# Altium integrated library Self Establish.IntLib: 75 symbols
Pins are listed as number, name and electrical type; pins without a type are passive.

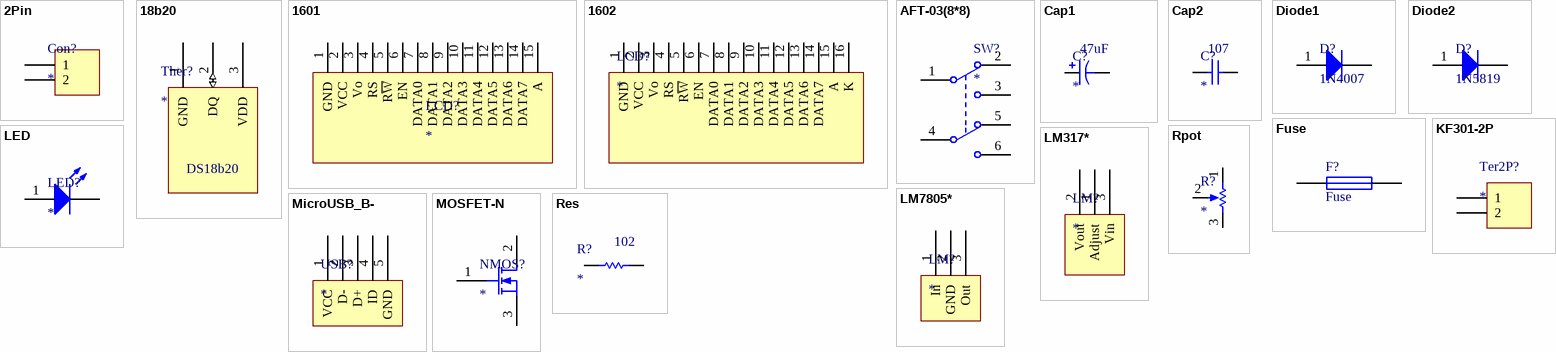
[diagram p0: symbols 2Pin to Rpot]

## 2Pin
designator Con?
footprint 2Pin(DIP) (杜邦线)
pins: 1, 2

## 18b20
designator Ther?
DS18B20 Programmable Resolution 1-Wire® Digital Thermometer
footprint TO-92A(DIP) (TO, Flat Index; 3 In-Line, Axial Leads; Body Dia. 4.5mm; Leads 0.51 x 0.48 mm (max))
footprint 3Pin(DIP) (杜邦线)
pins: 1 GND (power), 2 DQ (io), 3 VDD (power)
text: DS18b20

## 1601
designator LCD?
lcd1601
pins: 1 GND, 2 VCC, 3 Vo, 4 RS, 5 R~{W}, 6 EN, 7 DATA0, 8 DATA1, 9 DATA2, 10 DATA3, 11 DATA4, 12 DATA5, 13 DATA6, 14 DATA7, 15 A

## 1602
designator LCD?
lcd1602
footprint 1602(DIP) (lcd1602)
footprint 1602_(DIP) (lcd1602紧凑版)
pins: 1 GND, 2 VCC, 3 Vo, 4 RS, 5 R~{W}, 6 EN, 7 DATA0, 8 DATA1, 9 DATA2, 10 DATA3, 11 DATA4, 12 DATA5, 13 DATA6, 14 DATA7, 15 A, 16 K

## AFT-03(8*8)
designator SW?
双刀双掷(DPDT)
footprint AFT-03(DIP) (DPDT)
pins: 1 COMMON1, 2 NC1, 3 NO1, 4 COMMON2, 5 NC2, 6 NO2

## Cap1
designator C?  value 47uF
极性电容; Value: 1uF
footprint 0603_(M) (0603(极性))
footprint 0805_(M) (0805(极性))
footprint 50V1uF(DIP) (电解电容)
footprint 25V47uF(DIP) (电解电容)
pins: 1, 2

## Cap2
designator C?  value 107
非极性电容; Value: 104; Value: 103
footprint 0603(M) (0603(无极性))
footprint 0805(M) (0805(无极性))
pins: 1, 2

## Diode1
designator D?, comment 1N4007
整流二极管
footprint SMA(M) (SMA(DO-214AC))
pins: 1 P, 2 N

## Diode2
designator D?, comment 1N5819
肖特基二极管
footprint SMA(M) (SMA(DO-214AC))
pins: 1 P, 2 N

## Fuse
designator F?
保险丝
footprint 1812(M) (fuse)
pins: 1, 2

## KF301-2P
designator Ter2P?
接线端子 脚距5.08MM 300V/16A
footprint KF301-2P(DIP) (2Pin接头)
pins: 1, 2

## LED
designator LED?
footprint 0603_(M) (0603(极性))
footprint 0805_(M) (0805(极性))
pins: 1 P, 2 N

## LM317*
designator LM?
三端稳压(可调)
footprint TO220(DIP) (TO220AB)
pins: 1 Adjust, 2 Vout, 3 Vin

## LM7805*
designator LM?
三端稳压
footprint TO220(DIP) (TO220AB)
pins: 1 In, 2 GND (power), 3 Out

## MicroUSB_B-
designator USB?
母头
footprint MicroUSB_B-(M) (母头)
pins: 1 VCC (power), 2 D-, 3 D+, 4 ID, 5 GND (power)

## MOSFET-N
designator NMOS?
footprint TO220(DIP) (TO220AB)
footprint TO-263-3(M)
pins: 1 G, 2 D, 3 S

## Res
designator R?  value 102
Value: 0; Value: 301; Value: 472; Value: 101; Value: 103; Value: 102; Value: 562
footprint 0603(M) (0603(无极性))
footprint 0805(M) (0805(无极性))
pins: 1, 2

## Rpot
designator R?
电位计
footprint 3296W(DIP) (电位计)
pins: 1 TOP, 2 TAP, 3 BOT


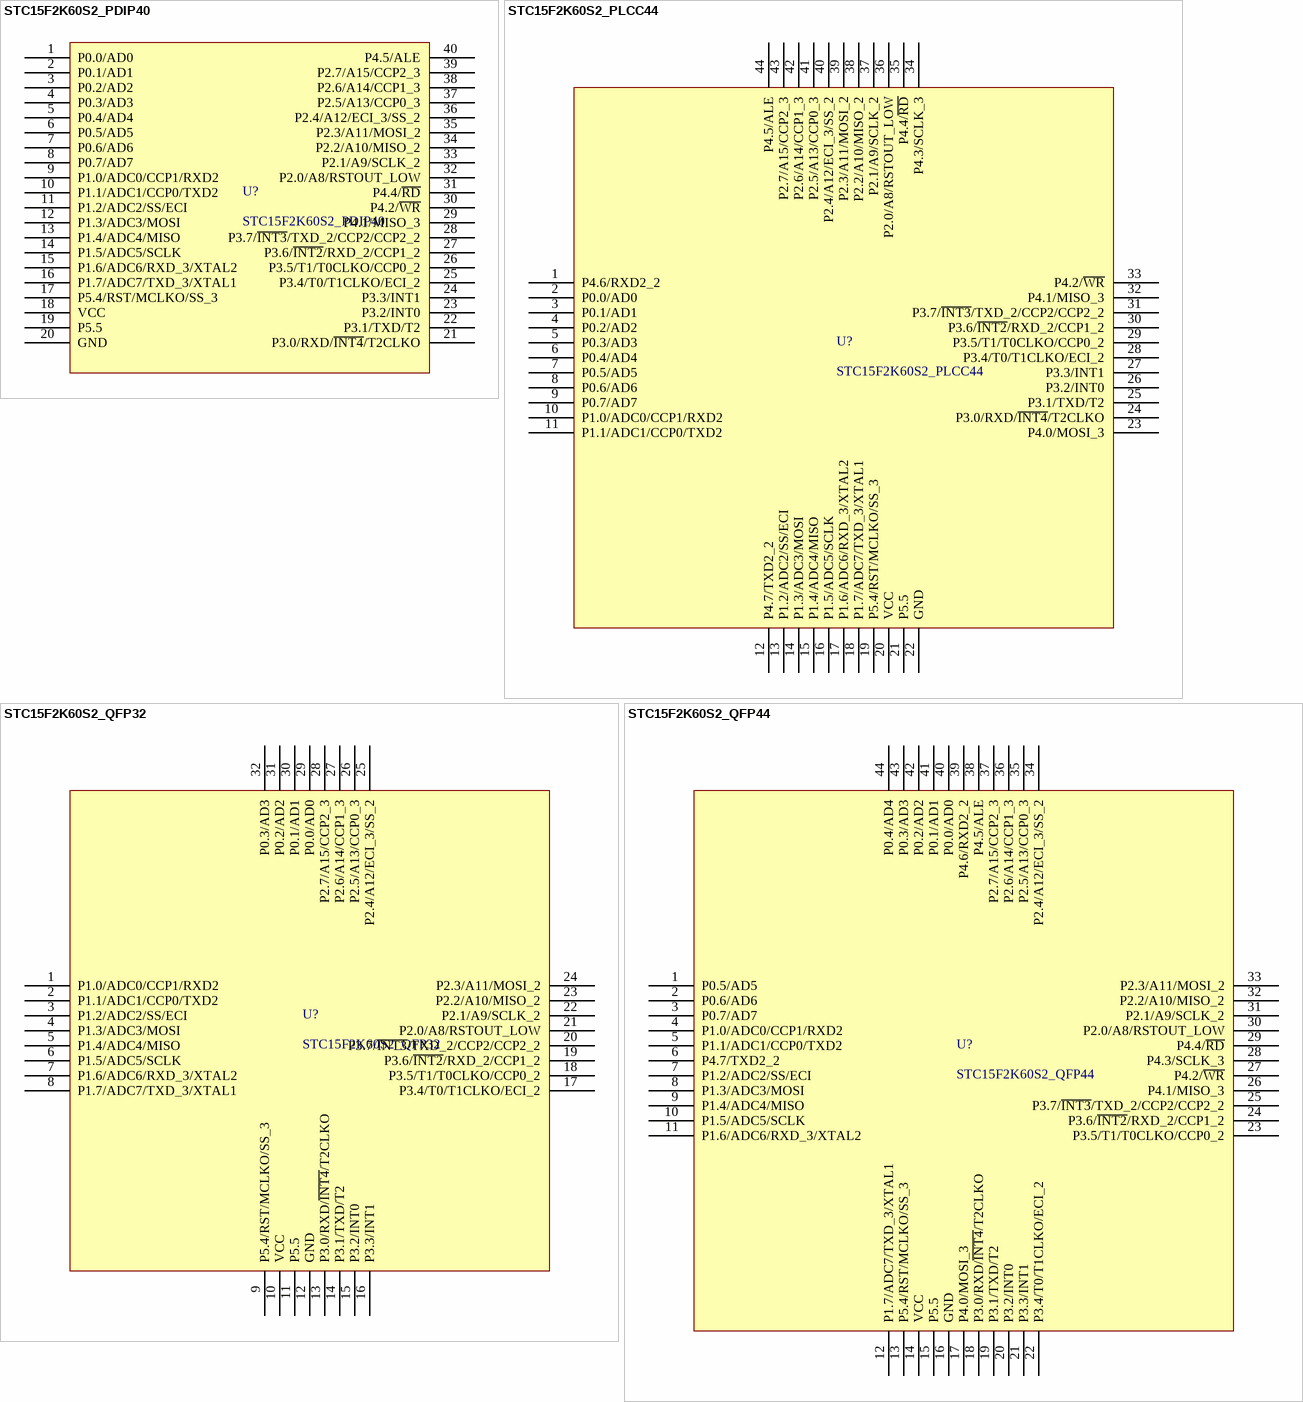
[diagram p1: symbols STC15F2K60S2_PDIP40 to STC15F2K60S2_QFP44]

## STC15F2K60S2_PDIP40
designator U?
footprint DIP40
pins: 1 P0.0/AD0, 2 P0.1/AD1, 3 P0.2/AD2, 4 P0.3/AD3, 5 P0.4/AD4, 6 P0.5/AD5, 7 P0.6/AD6, 8 P0.7/AD7, 9 P1.0/ADC0/CCP1/RXD2, 10 P1.1/ADC1/CCP0/TXD2, 11 P1.2/ADC2/SS/ECI, 12 P1.3/ADC3/MOSI, 13 P1.4/ADC4/MISO, 14 P1.5/ADC5/SCLK, 15 P1.6/ADC6/RXD_3/XTAL2, 16 P1.7/ADC7/TXD_3/XTAL1, 17 P5.4/RST/MCLKO/SS_3, 18 VCC, 19 P5.5, 20 GND, 21 P3.0/RXD/~{INT4}/T2CLKO, 22 P3.1/TXD/T2, 23 P3.2/INT0, 24 P3.3/INT1, 25 P3.4/T0/T1CLKO/ECI_2, 26 P3.5/T1/T0CLKO/CCP0_2, 27 P3.6/~{INT2}/RXD_2/CCP1_2, 28 P3.7/~{INT3}/TXD_2/CCP2/CCP2_2, 29 P4.1/MISO_3, 30 P4.2/~{WR}, 31 P4.4/~{RD}, 32 P2.0/A8/RSTOUT_LOW, 33 P2.1/A9/SCLK_2, 34 P2.2/A10/MISO_2, 35 P2.3/A11/MOSI_2, 36 P2.4/A12/ECI_3/SS_2, 37 P2.5/A13/CCP0_3, 38 P2.6/A14/CCP1_3, 39 P2.7/A15/CCP2_3, 40 P4.5/ALE

## STC15F2K60S2_PLCC44
designator U?
footprint PLCC44
pins: 1 P4.6/RXD2_2, 2 P0.0/AD0, 3 P0.1/AD1, 4 P0.2/AD2, 5 P0.3/AD3, 6 P0.4/AD4, 7 P0.5/AD5, 8 P0.6/AD6, 9 P0.7/AD7, 10 P1.0/ADC0/CCP1/RXD2, 11 P1.1/ADC1/CCP0/TXD2, 12 P4.7/TXD2_2, 13 P1.2/ADC2/SS/ECI, 14 P1.3/ADC3/MOSI, 15 P1.4/ADC4/MISO, 16 P1.5/ADC5/SCLK, 17 P1.6/ADC6/RXD_3/XTAL2, 18 P1.7/ADC7/TXD_3/XTAL1, 19 P5.4/RST/MCLKO/SS_3, 20 VCC, 21 P5.5, 22 GND, 23 P4.0/MOSI_3, 24 P3.0/RXD/~{INT4}/T2CLKO, 25 P3.1/TXD/T2, 26 P3.2/INT0, 27 P3.3/INT1, 28 P3.4/T0/T1CLKO/ECI_2, 29 P3.5/T1/T0CLKO/CCP0_2, 30 P3.6/~{INT2}/RXD_2/CCP1_2, 31 P3.7/~{INT3}/TXD_2/CCP2/CCP2_2, 32 P4.1/MISO_3, 33 P4.2/~{WR}, 34 P4.3/SCLK_3, 35 P4.4/~{RD}, 36 P2.0/A8/RSTOUT_LOW, 37 P2.1/A9/SCLK_2, 38 P2.2/A10/MISO_2, 39 P2.3/A11/MOSI_2, 40 P2.4/A12/ECI_3/SS_2, 41 P2.5/A13/CCP0_3, 42 P2.6/A14/CCP1_3, 43 P2.7/A15/CCP2_3, 44 P4.5/ALE

## STC15F2K60S2_QFP32
designator U?
footprint LQFP32
pins: 1 P1.0/ADC0/CCP1/RXD2, 2 P1.1/ADC1/CCP0/TXD2, 3 P1.2/ADC2/SS/ECI, 4 P1.3/ADC3/MOSI, 5 P1.4/ADC4/MISO, 6 P1.5/ADC5/SCLK, 7 P1.6/ADC6/RXD_3/XTAL2, 8 P1.7/ADC7/TXD_3/XTAL1, 9 P5.4/RST/MCLKO/SS_3, 10 VCC, 11 P5.5, 12 GND, 13 P3.0/RXD/~{INT4}/T2CLKO, 14 P3.1/TXD/T2, 15 P3.2/INT0, 16 P3.3/INT1, 17 P3.4/T0/T1CLKO/ECI_2, 18 P3.5/T1/T0CLKO/CCP0_2, 19 P3.6/~{INT2}/RXD_2/CCP1_2, 20 P3.7/~{INT3}/TXD_2/CCP2/CCP2_2, 21 P2.0/A8/RSTOUT_LOW, 22 P2.1/A9/SCLK_2, 23 P2.2/A10/MISO_2, 24 P2.3/A11/MOSI_2, 25 P2.4/A12/ECI_3/SS_2, 26 P2.5/A13/CCP0_3, 27 P2.6/A14/CCP1_3, 28 P2.7/A15/CCP2_3, 29 P0.0/AD0, 30 P0.1/AD1, 31 P0.2/AD2, 32 P0.3/AD3

## STC15F2K60S2_QFP44
designator U?
footprint PQFP44
footprint LQFP44
pins: 1 P0.5/AD5, 2 P0.6/AD6, 3 P0.7/AD7, 4 P1.0/ADC0/CCP1/RXD2, 5 P1.1/ADC1/CCP0/TXD2, 6 P4.7/TXD2_2, 7 P1.2/ADC2/SS/ECI, 8 P1.3/ADC3/MOSI, 9 P1.4/ADC4/MISO, 10 P1.5/ADC5/SCLK, 11 P1.6/ADC6/RXD_3/XTAL2, 12 P1.7/ADC7/TXD_3/XTAL1, 13 P5.4/RST/MCLKO/SS_3, 14 VCC, 15 P5.5, 16 GND, 17 P4.0/MOSI_3, 18 P3.0/RXD/~{INT4}/T2CLKO, 19 P3.1/TXD/T2, 20 P3.2/INT0, 21 P3.3/INT1, 22 P3.4/T0/T1CLKO/ECI_2, 23 P3.5/T1/T0CLKO/CCP0_2, 24 P3.6/~{INT2}/RXD_2/CCP1_2, 25 P3.7/~{INT3}/TXD_2/CCP2/CCP2_2, 26 P4.1/MISO_3, 27 P4.2/~{WR}, 28 P4.3/SCLK_3, 29 P4.4/~{RD}, 30 P2.0/A8/RSTOUT_LOW, 31 P2.1/A9/SCLK_2, 32 P2.2/A10/MISO_2, 33 P2.3/A11/MOSI_2, 34 P2.4/A12/ECI_3/SS_2, 35 P2.5/A13/CCP0_3, 36 P2.6/A14/CCP1_3, 37 P2.7/A15/CCP2_3, 38 P4.5/ALE, 39 P4.6/RXD2_2, 40 P0.0/AD0, 41 P0.1/AD1, 42 P0.2/AD2, 43 P0.3/AD3, 44 P0.4/AD4

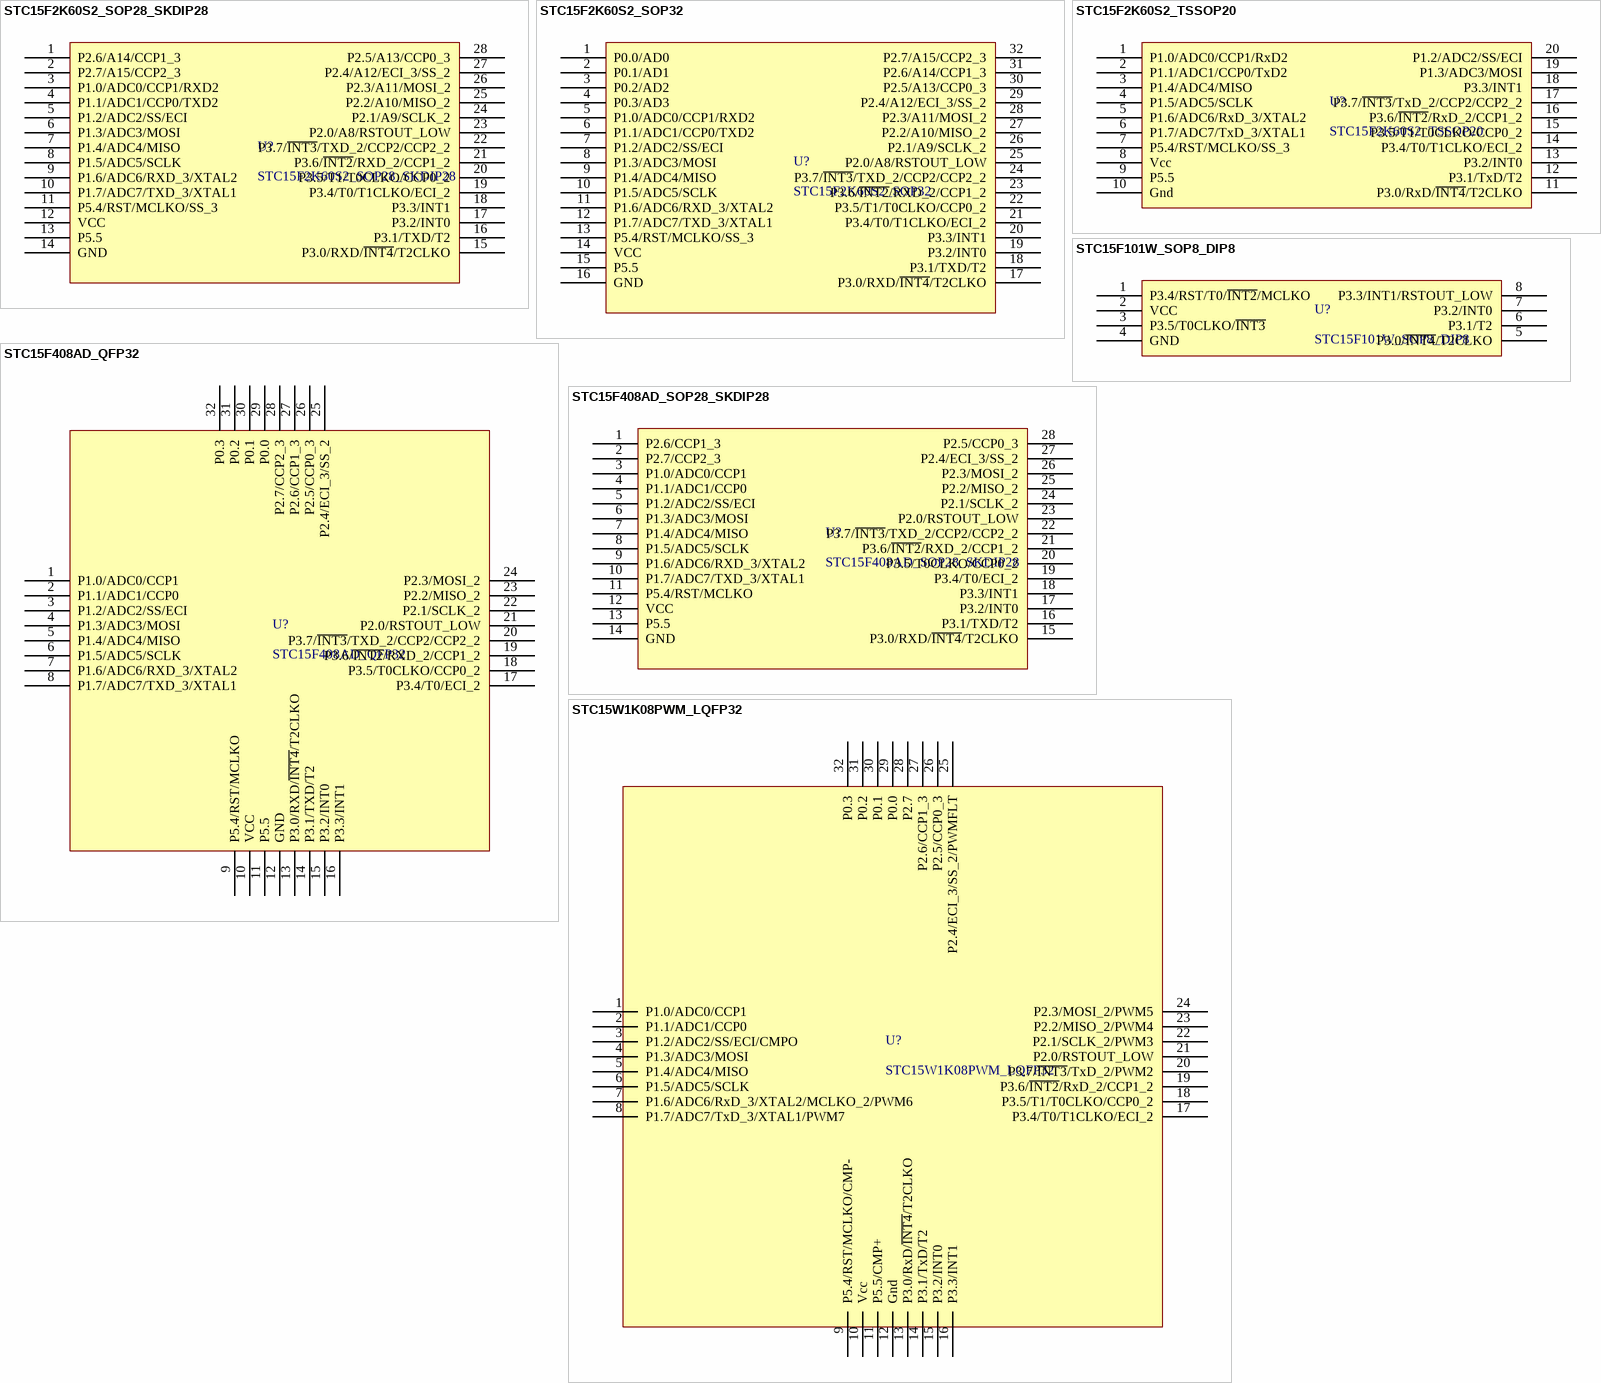
[diagram p2: symbols STC15F2K60S2_SOP28_SKDIP28 to STC15W1K08PWM_LQFP32]

## STC15F2K60S2_SOP28_SKDIP28
designator U?
footprint SKDIP28
footprint SOP28
footprint TSSOP28
pins: 1 P2.6/A14/CCP1_3, 2 P2.7/A15/CCP2_3, 3 P1.0/ADC0/CCP1/RXD2, 4 P1.1/ADC1/CCP0/TXD2, 5 P1.2/ADC2/SS/ECI, 6 P1.3/ADC3/MOSI, 7 P1.4/ADC4/MISO, 8 P1.5/ADC5/SCLK, 9 P1.6/ADC6/RXD_3/XTAL2, 10 P1.7/ADC7/TXD_3/XTAL1, 11 P5.4/RST/MCLKO/SS_3, 12 VCC, 13 P5.5, 14 GND, 15 P3.0/RXD/~{INT4}/T2CLKO, 16 P3.1/TXD/T2, 17 P3.2/INT0, 18 P3.3/INT1, 19 P3.4/T0/T1CLKO/ECI_2, 20 P3.5/T1/T0CLKO/CCP0_2, 21 P3.6/~{INT2}/RXD_2/CCP1_2, 22 P3.7/~{INT3}/TXD_2/CCP2/CCP2_2, 23 P2.0/A8/RSTOUT_LOW, 24 P2.1/A9/SCLK_2, 25 P2.2/A10/MISO_2, 26 P2.3/A11/MOSI_2, 27 P2.4/A12/ECI_3/SS_2, 28 P2.5/A13/CCP0_3

## STC15F2K60S2_SOP32
designator U?
footprint SOP32
pins: 1 P0.0/AD0, 2 P0.1/AD1, 3 P0.2/AD2, 4 P0.3/AD3, 5 P1.0/ADC0/CCP1/RXD2, 6 P1.1/ADC1/CCP0/TXD2, 7 P1.2/ADC2/SS/ECI, 8 P1.3/ADC3/MOSI, 9 P1.4/ADC4/MISO, 10 P1.5/ADC5/SCLK, 11 P1.6/ADC6/RXD_3/XTAL2, 12 P1.7/ADC7/TXD_3/XTAL1, 13 P5.4/RST/MCLKO/SS_3, 14 VCC, 15 P5.5, 16 GND, 17 P3.0/RXD/~{INT4}/T2CLKO, 18 P3.1/TXD/T2, 19 P3.2/INT0, 20 P3.3/INT1, 21 P3.4/T0/T1CLKO/ECI_2, 22 P3.5/T1/T0CLKO/CCP0_2, 23 P3.6/~{INT2}/RXD_2/CCP1_2, 24 P3.7/~{INT3}/TXD_2/CCP2/CCP2_2, 25 P2.0/A8/RSTOUT_LOW, 26 P2.1/A9/SCLK_2, 27 P2.2/A10/MISO_2, 28 P2.3/A11/MOSI_2, 29 P2.4/A12/ECI_3/SS_2, 30 P2.5/A13/CCP0_3, 31 P2.6/A14/CCP1_3, 32 P2.7/A15/CCP2_3

## STC15F2K60S2_TSSOP20
designator U?
footprint TSSOP20
pins: 1 P1.0/ADC0/CCP1/RxD2, 2 P1.1/ADC1/CCP0/TxD2, 3 P1.4/ADC4/MISO, 4 P1.5/ADC5/SCLK, 5 P1.6/ADC6/RxD_3/XTAL2, 6 P1.7/ADC7/TxD_3/XTAL1, 7 P5.4/RST/MCLKO/SS_3, 8 Vcc, 9 P5.5, 10 Gnd, 11 P3.0/RxD/~{INT4}/T2CLKO, 12 P3.1/TxD/T2, 13 P3.2/INT0, 14 P3.4/T0/T1CLKO/ECI_2, 15 P3.5/T1/T0CLKO/CCP0_2, 16 P3.6/~{INT2}/RxD_2/CCP1_2, 17 P3.7/~{INT3}/TxD_2/CCP2/CCP2_2, 18 P3.3/INT1, 19 P1.3/ADC3/MOSI, 20 P1.2/ADC2/SS/ECI

## STC15F101W_SOP8_DIP8
designator U?
footprint DFN8
footprint DIP8
footprint SOP8
pins: 1 P3.4/RST/T0/~{INT2}/MCLKO, 2 VCC, 3 P3.5/T0CLKO/~{INT3}, 4 GND, 5 P3.0/~{INT4}/T2CLKO, 6 P3.1/T2, 7 P3.2/INT0, 8 P3.3/INT1/RSTOUT_LOW

## STC15F408AD_QFP32
designator U?
footprint LQFP32
pins: 1 P1.0/ADC0/CCP1, 2 P1.1/ADC1/CCP0, 3 P1.2/ADC2/SS/ECI, 4 P1.3/ADC3/MOSI, 5 P1.4/ADC4/MISO, 6 P1.5/ADC5/SCLK, 7 P1.6/ADC6/RXD_3/XTAL2, 8 P1.7/ADC7/TXD_3/XTAL1, 9 P5.4/RST/MCLKO, 10 VCC, 11 P5.5, 12 GND, 13 P3.0/RXD/~{INT4}/T2CLKO, 14 P3.1/TXD/T2, 15 P3.2/INT0, 16 P3.3/INT1, 17 P3.4/T0/ECI_2, 18 P3.5/T0CLKO/CCP0_2, 19 P3.6/~{INT2}/RXD_2/CCP1_2, 20 P3.7/~{INT3}/TXD_2/CCP2/CCP2_2, 21 P2.0/RSTOUT_LOW, 22 P2.1/SCLK_2, 23 P2.2/MISO_2, 24 P2.3/MOSI_2, 25 P2.4/ECI_3/SS_2, 26 P2.5/CCP0_3, 27 P2.6/CCP1_3, 28 P2.7/CCP2_3, 29 P0.0, 30 P0.1, 31 P0.2, 32 P0.3

## STC15F408AD_SOP28_SKDIP28
designator U?
footprint SKDIP28
footprint SOP28
footprint TSSOP28
pins: 1 P2.6/CCP1_3, 2 P2.7/CCP2_3, 3 P1.0/ADC0/CCP1, 4 P1.1/ADC1/CCP0, 5 P1.2/ADC2/SS/ECI, 6 P1.3/ADC3/MOSI, 7 P1.4/ADC4/MISO, 8 P1.5/ADC5/SCLK, 9 P1.6/ADC6/RXD_3/XTAL2, 10 P1.7/ADC7/TXD_3/XTAL1, 11 P5.4/RST/MCLKO, 12 VCC, 13 P5.5, 14 GND, 15 P3.0/RXD/~{INT4}/T2CLKO, 16 P3.1/TXD/T2, 17 P3.2/INT0, 18 P3.3/INT1, 19 P3.4/T0/ECI_2, 20 P3.5/T0CLKO/CCP0_2, 21 P3.6/~{INT2}/RXD_2/CCP1_2, 22 P3.7/~{INT3}/TXD_2/CCP2/CCP2_2, 23 P2.0/RSTOUT_LOW, 24 P2.1/SCLK_2, 25 P2.2/MISO_2, 26 P2.3/MOSI_2, 27 P2.4/ECI_3/SS_2, 28 P2.5/CCP0_3

## STC15W1K08PWM_LQFP32
designator U?
footprint LQFP32
pins: 1 P1.0/ADC0/CCP1, 2 P1.1/ADC1/CCP0, 3 P1.2/ADC2/SS/ECI/CMPO, 4 P1.3/ADC3/MOSI, 5 P1.4/ADC4/MISO, 6 P1.5/ADC5/SCLK, 7 P1.6/ADC6/RxD_3/XTAL2/MCLKO_2/PWM6, 8 P1.7/ADC7/TxD_3/XTAL1/PWM7, 9 P5.4/RST/MCLKO/CMP-, 10 Vcc, 11 P5.5/CMP+, 12 Gnd, 13 P3.0/RxD/~{INT4}/T2CLKO, 14 P3.1/TxD/T2, 15 P3.2/INT0, 16 P3.3/INT1, 17 P3.4/T0/T1CLKO/ECI_2, 18 P3.5/T1/T0CLKO/CCP0_2, 19 P3.6/~{INT2}/RxD_2/CCP1_2, 20 P3.7/~{INT3}/TxD_2/PWM2, 21 P2.0/RSTOUT_LOW, 22 P2.1/SCLK_2/PWM3, 23 P2.2/MISO_2/PWM4, 24 P2.3/MOSI_2/PWM5, 25 P2.4/ECI_3/SS_2/PWMFLT, 26 P2.5/CCP0_3, 27 P2.6/CCP1_3, 28 P2.7, 29 P0.0, 30 P0.1, 31 P0.2, 32 P0.3

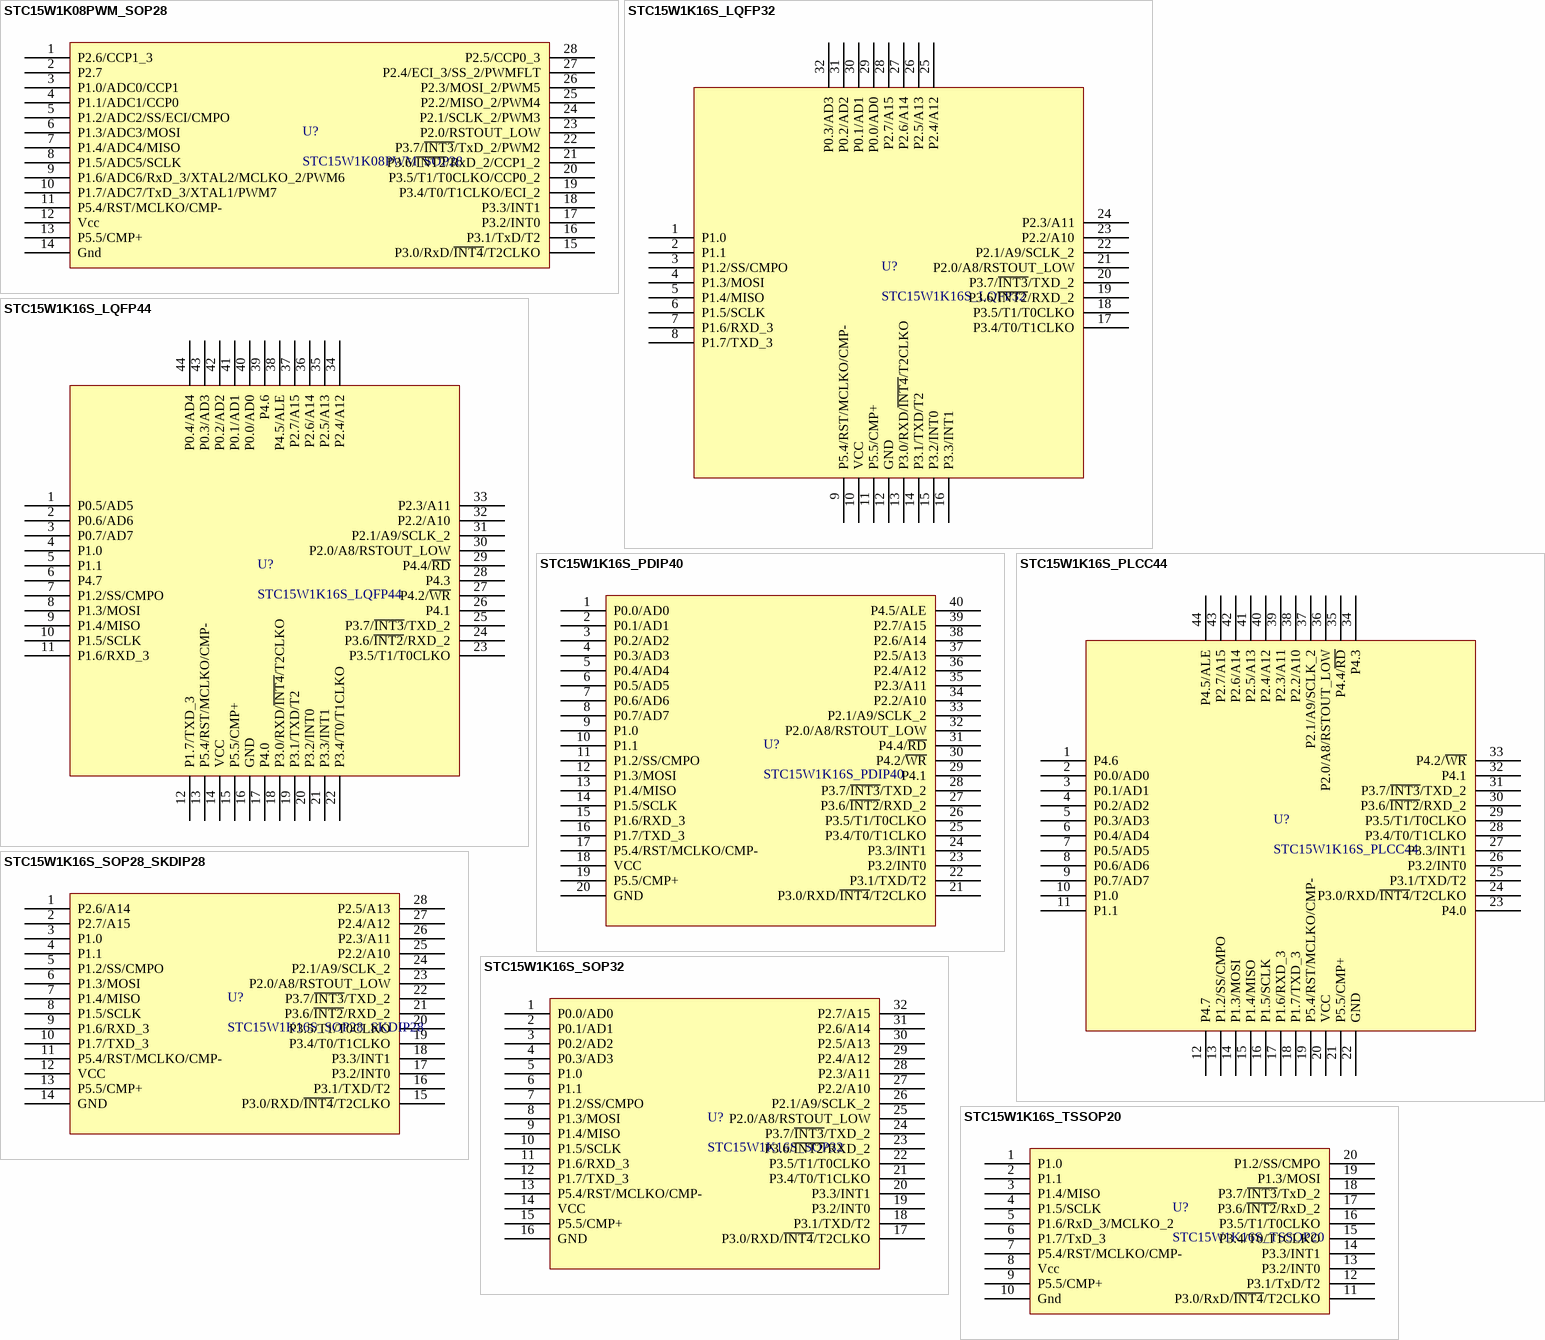
[diagram p3: symbols STC15W1K08PWM_SOP28 to STC15W1K16S_TSSOP20]

## STC15W1K08PWM_SOP28
designator U?
footprint SOP28
pins: 1 P2.6/CCP1_3, 2 P2.7, 3 P1.0/ADC0/CCP1, 4 P1.1/ADC1/CCP0, 5 P1.2/ADC2/SS/ECI/CMPO, 6 P1.3/ADC3/MOSI, 7 P1.4/ADC4/MISO, 8 P1.5/ADC5/SCLK, 9 P1.6/ADC6/RxD_3/XTAL2/MCLKO_2/PWM6, 10 P1.7/ADC7/TxD_3/XTAL1/PWM7, 11 P5.4/RST/MCLKO/CMP-, 12 Vcc, 13 P5.5/CMP+, 14 Gnd, 15 P3.0/RxD/~{INT4}/T2CLKO, 16 P3.1/TxD/T2, 17 P3.2/INT0, 18 P3.3/INT1, 19 P3.4/T0/T1CLKO/ECI_2, 20 P3.5/T1/T0CLKO/CCP0_2, 21 P3.6/~{INT2}/RxD_2/CCP1_2, 22 P3.7/~{INT3}/TxD_2/PWM2, 23 P2.0/RSTOUT_LOW, 24 P2.1/SCLK_2/PWM3, 25 P2.2/MISO_2/PWM4, 26 P2.3/MOSI_2/PWM5, 27 P2.4/ECI_3/SS_2/PWMFLT, 28 P2.5/CCP0_3

## STC15W1K16S_LQFP32
designator U?
footprint LQFP32
pins: 1 P1.0, 2 P1.1, 3 P1.2/SS/CMPO, 4 P1.3/MOSI, 5 P1.4/MISO, 6 P1.5/SCLK, 7 P1.6/RXD_3, 8 P1.7/TXD_3, 9 P5.4/RST/MCLKO/CMP-, 10 VCC, 11 P5.5/CMP+, 12 GND, 13 P3.0/RXD/~{INT4}/T2CLKO, 14 P3.1/TXD/T2, 15 P3.2/INT0, 16 P3.3/INT1, 17 P3.4/T0/T1CLKO, 18 P3.5/T1/T0CLKO, 19 P3.6/~{INT2}/RXD_2, 20 P3.7/~{INT3}/TXD_2, 21 P2.0/A8/RSTOUT_LOW, 22 P2.1/A9/SCLK_2, 23 P2.2/A10, 24 P2.3/A11, 25 P2.4/A12, 26 P2.5/A13, 27 P2.6/A14, 28 P2.7/A15, 29 P0.0/AD0, 30 P0.1/AD1, 31 P0.2/AD2, 32 P0.3/AD3

## STC15W1K16S_LQFP44
designator U?
footprint LQFP44
footprint PQFP44
pins: 1 P0.5/AD5, 2 P0.6/AD6, 3 P0.7/AD7, 4 P1.0, 5 P1.1, 6 P4.7, 7 P1.2/SS/CMPO, 8 P1.3/MOSI, 9 P1.4/MISO, 10 P1.5/SCLK, 11 P1.6/RXD_3, 12 P1.7/TXD_3, 13 P5.4/RST/MCLKO/CMP-, 14 VCC, 15 P5.5/CMP+, 16 GND, 17 P4.0, 18 P3.0/RXD/~{INT4}/T2CLKO, 19 P3.1/TXD/T2, 20 P3.2/INT0, 21 P3.3/INT1, 22 P3.4/T0/T1CLKO, 23 P3.5/T1/T0CLKO, 24 P3.6/~{INT2}/RXD_2, 25 P3.7/~{INT3}/TXD_2, 26 P4.1, 27 P4.2/~{WR}, 28 P4.3, 29 P4.4/~{RD}, 30 P2.0/A8/RSTOUT_LOW, 31 P2.1/A9/SCLK_2, 32 P2.2/A10, 33 P2.3/A11, 34 P2.4/A12, 35 P2.5/A13, 36 P2.6/A14, 37 P2.7/A15, 38 P4.5/ALE, 39 P4.6, 40 P0.0/AD0, 41 P0.1/AD1, 42 P0.2/AD2, 43 P0.3/AD3, 44 P0.4/AD4

## STC15W1K16S_PDIP40
designator U?
footprint DIP40
pins: 1 P0.0/AD0, 2 P0.1/AD1, 3 P0.2/AD2, 4 P0.3/AD3, 5 P0.4/AD4, 6 P0.5/AD5, 7 P0.6/AD6, 8 P0.7/AD7, 9 P1.0, 10 P1.1, 11 P1.2/SS/CMPO, 12 P1.3/MOSI, 13 P1.4/MISO, 14 P1.5/SCLK, 15 P1.6/RXD_3, 16 P1.7/TXD_3, 17 P5.4/RST/MCLKO/CMP-, 18 VCC, 19 P5.5/CMP+, 20 GND, 21 P3.0/RXD/~{INT4}/T2CLKO, 22 P3.1/TXD/T2, 23 P3.2/INT0, 24 P3.3/INT1, 25 P3.4/T0/T1CLKO, 26 P3.5/T1/T0CLKO, 27 P3.6/~{INT2}/RXD_2, 28 P3.7/~{INT3}/TXD_2, 29 P4.1, 30 P4.2/~{WR}, 31 P4.4/~{RD}, 32 P2.0/A8/RSTOUT_LOW, 33 P2.1/A9/SCLK_2, 34 P2.2/A10, 35 P2.3/A11, 36 P2.4/A12, 37 P2.5/A13, 38 P2.6/A14, 39 P2.7/A15, 40 P4.5/ALE

## STC15W1K16S_PLCC44
designator U?
footprint PLCC44
pins: 1 P4.6, 2 P0.0/AD0, 3 P0.1/AD1, 4 P0.2/AD2, 5 P0.3/AD3, 6 P0.4/AD4, 7 P0.5/AD5, 8 P0.6/AD6, 9 P0.7/AD7, 10 P1.0, 11 P1.1, 12 P4.7, 13 P1.2/SS/CMPO, 14 P1.3/MOSI, 15 P1.4/MISO, 16 P1.5/SCLK, 17 P1.6/RXD_3, 18 P1.7/TXD_3, 19 P5.4/RST/MCLKO/CMP-, 20 VCC, 21 P5.5/CMP+, 22 GND, 23 P4.0, 24 P3.0/RXD/~{INT4}/T2CLKO, 25 P3.1/TXD/T2, 26 P3.2/INT0, 27 P3.3/INT1, 28 P3.4/T0/T1CLKO, 29 P3.5/T1/T0CLKO, 30 P3.6/~{INT2}/RXD_2, 31 P3.7/~{INT3}/TXD_2, 32 P4.1, 33 P4.2/~{WR}, 34 P4.3, 35 P4.4/~{RD}, 36 P2.0/A8/RSTOUT_LOW, 37 P2.1/A9/SCLK_2, 38 P2.2/A10, 39 P2.3/A11, 40 P2.4/A12, 41 P2.5/A13, 42 P2.6/A14, 43 P2.7/A15, 44 P4.5/ALE

## STC15W1K16S_SOP28_SKDIP28
designator U?
footprint SKDIP28
footprint SOP28
footprint TSSOP28
pins: 1 P2.6/A14, 2 P2.7/A15, 3 P1.0, 4 P1.1, 5 P1.2/SS/CMPO, 6 P1.3/MOSI, 7 P1.4/MISO, 8 P1.5/SCLK, 9 P1.6/RXD_3, 10 P1.7/TXD_3, 11 P5.4/RST/MCLKO/CMP-, 12 VCC, 13 P5.5/CMP+, 14 GND, 15 P3.0/RXD/~{INT4}/T2CLKO, 16 P3.1/TXD/T2, 17 P3.2/INT0, 18 P3.3/INT1, 19 P3.4/T0/T1CLKO, 20 P3.5/T1/T0CLKO, 21 P3.6/~{INT2}/RXD_2, 22 P3.7/~{INT3}/TXD_2, 23 P2.0/A8/RSTOUT_LOW, 24 P2.1/A9/SCLK_2, 25 P2.2/A10, 26 P2.3/A11, 27 P2.4/A12, 28 P2.5/A13

## STC15W1K16S_SOP32
designator U?
footprint SOP32
pins: 1 P0.0/AD0, 2 P0.1/AD1, 3 P0.2/AD2, 4 P0.3/AD3, 5 P1.0, 6 P1.1, 7 P1.2/SS/CMPO, 8 P1.3/MOSI, 9 P1.4/MISO, 10 P1.5/SCLK, 11 P1.6/RXD_3, 12 P1.7/TXD_3, 13 P5.4/RST/MCLKO/CMP-, 14 VCC, 15 P5.5/CMP+, 16 GND, 17 P3.0/RXD/~{INT4}/T2CLKO, 18 P3.1/TXD/T2, 19 P3.2/INT0, 20 P3.3/INT1, 21 P3.4/T0/T1CLKO, 22 P3.5/T1/T0CLKO, 23 P3.6/~{INT2}/RXD_2, 24 P3.7/~{INT3}/TXD_2, 25 P2.0/A8/RSTOUT_LOW, 26 P2.1/A9/SCLK_2, 27 P2.2/A10, 28 P2.3/A11, 29 P2.4/A12, 30 P2.5/A13, 31 P2.6/A14, 32 P2.7/A15

## STC15W1K16S_TSSOP20
designator U?
footprint TSSOP20
pins: 1 P1.0, 2 P1.1, 3 P1.4/MISO, 4 P1.5/SCLK, 5 P1.6/RxD_3/MCLKO_2, 6 P1.7/TxD_3, 7 P5.4/RST/MCLKO/CMP-, 8 Vcc, 9 P5.5/CMP+, 10 Gnd, 11 P3.0/RxD/~{INT4}/T2CLKO, 12 P3.1/TxD/T2, 13 P3.2/INT0, 14 P3.3/INT1, 15 P3.4/T0/T1CLKO, 16 P3.5/T1/T0CLKO, 17 P3.6/~{INT2}/RxD_2, 18 P3.7/~{INT3}/TxD_2, 19 P1.3/MOSI, 20 P1.2/SS/CMPO

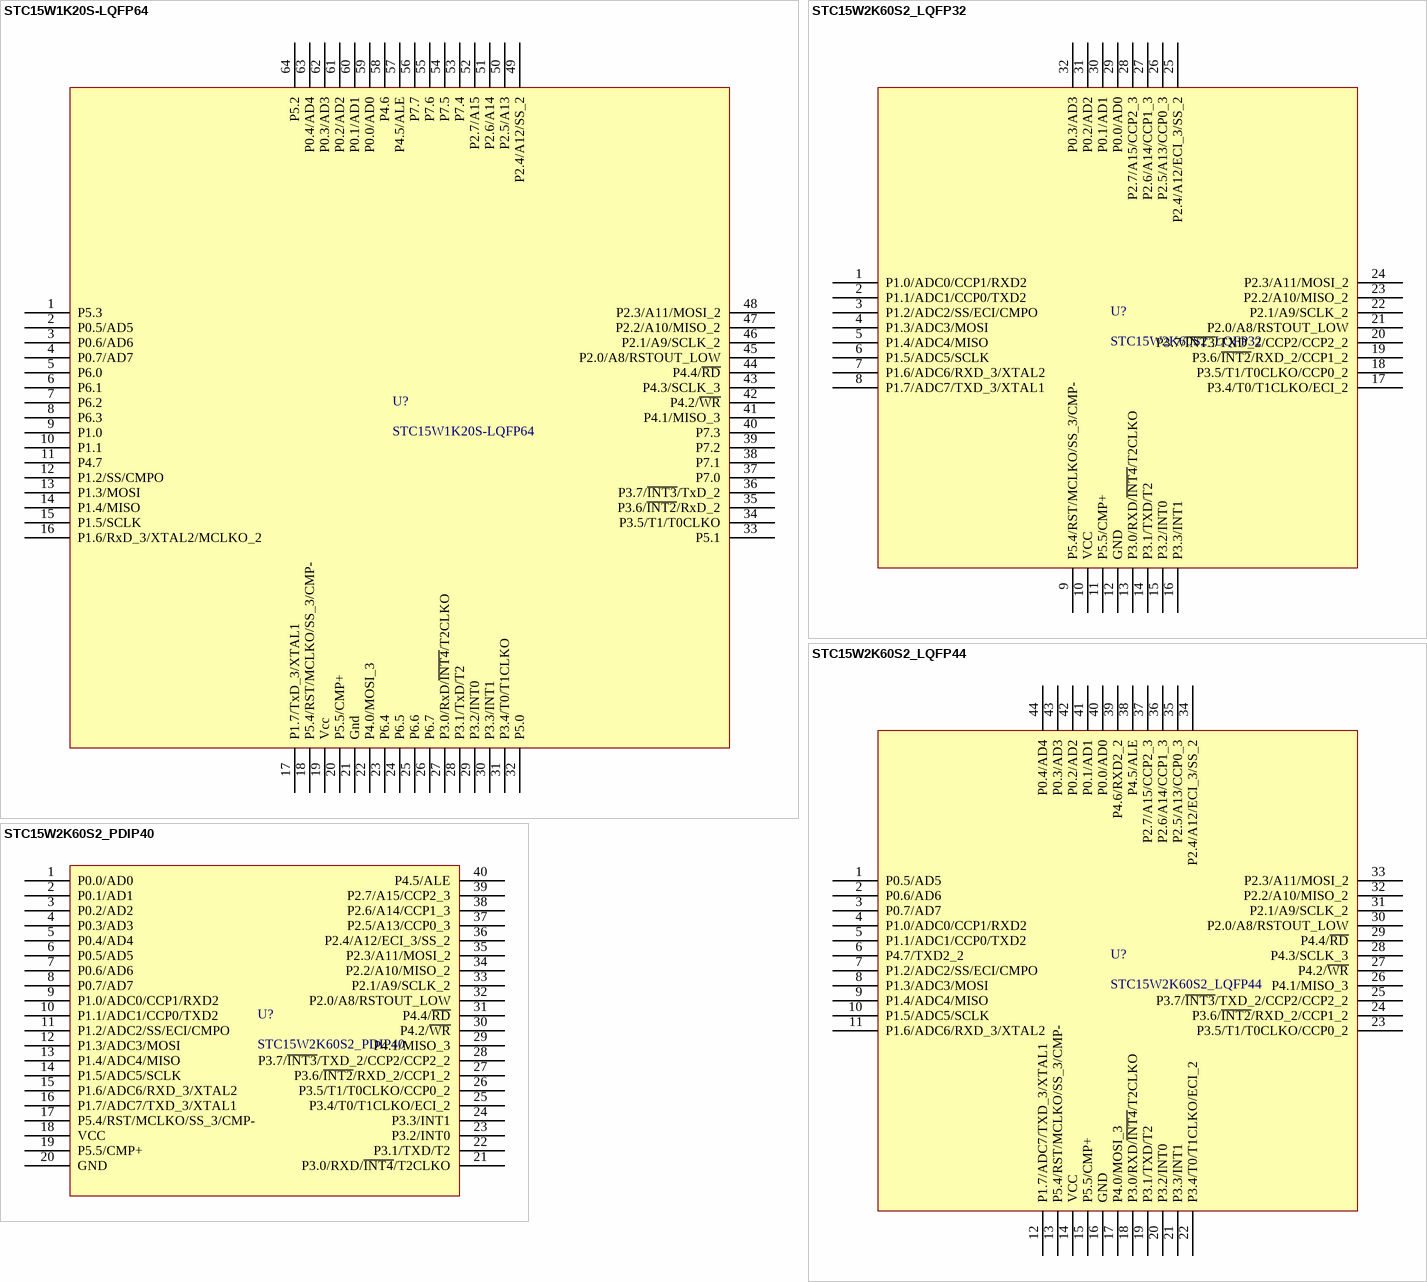
[diagram p4: symbols STC15W1K20S-LQFP64 to STC15W2K60S2_PDIP40]

## STC15W1K20S-LQFP64
designator U?
footprint lqfp64s
footprint lqfp64l
pins: 1 P5.3, 2 P0.5/AD5, 3 P0.6/AD6, 4 P0.7/AD7, 5 P6.0, 6 P6.1, 7 P6.2, 8 P6.3, 9 P1.0, 10 P1.1, 11 P4.7, 12 P1.2/SS/CMPO, 13 P1.3/MOSI, 14 P1.4/MISO, 15 P1.5/SCLK, 16 P1.6/RxD_3/XTAL2/MCLKO_2, 17 P1.7/TxD_3/XTAL1, 18 P5.4/RST/MCLKO/SS_3/CMP-, 19 Vcc, 20 P5.5/CMP+, 21 Gnd, 22 P4.0/MOSI_3, 23 P6.4, 24 P6.5, 25 P6.6, 26 P6.7, 27 P3.0/RxD/~{INT4}/T2CLKO, 28 P3.1/TxD/T2, 29 P3.2/INT0, 30 P3.3/INT1, 31 P3.4/T0/T1CLKO, 32 P5.0, 33 P5.1, 34 P3.5/T1/T0CLKO, 35 P3.6/~{INT2}/RxD_2, 36 P3.7/~{INT3}/TxD_2, 37 P7.0, 38 P7.1, 39 P7.2, 40 P7.3, 41 P4.1/MISO_3, 42 P4.2/~{WR}, 43 P4.3/SCLK_3, 44 P4.4/~{RD}, 45 P2.0/A8/RSTOUT_LOW, 46 P2.1/A9/SCLK_2, 47 P2.2/A10/MISO_2, 48 P2.3/A11/MOSI_2, 49 P2.4/A12/SS_2, 50 P2.5/A13, 51 P2.6/A14, 52 P2.7/A15, 53 P7.4, 54 P7.5, 55 P7.6, 56 P7.7, 57 P4.5/ALE, 58 P4.6, 59 P0.0/AD0, 60 P0.1/AD1, 61 P0.2/AD2, 62 P0.3/AD3, 63 P0.4/AD4, 64 P5.2

## STC15W2K60S2_LQFP32
designator U?
footprint LQFP32
pins: 1 P1.0/ADC0/CCP1/RXD2, 2 P1.1/ADC1/CCP0/TXD2, 3 P1.2/ADC2/SS/ECI/CMPO, 4 P1.3/ADC3/MOSI, 5 P1.4/ADC4/MISO, 6 P1.5/ADC5/SCLK, 7 P1.6/ADC6/RXD_3/XTAL2, 8 P1.7/ADC7/TXD_3/XTAL1, 9 P5.4/RST/MCLKO/SS_3/CMP-, 10 VCC, 11 P5.5/CMP+, 12 GND, 13 P3.0/RXD/~{INT4}/T2CLKO, 14 P3.1/TXD/T2, 15 P3.2/INT0, 16 P3.3/INT1, 17 P3.4/T0/T1CLKO/ECI_2, 18 P3.5/T1/T0CLKO/CCP0_2, 19 P3.6/~{INT2}/RXD_2/CCP1_2, 20 P3.7/~{INT3}/TXD_2/CCP2/CCP2_2, 21 P2.0/A8/RSTOUT_LOW, 22 P2.1/A9/SCLK_2, 23 P2.2/A10/MISO_2, 24 P2.3/A11/MOSI_2, 25 P2.4/A12/ECI_3/SS_2, 26 P2.5/A13/CCP0_3, 27 P2.6/A14/CCP1_3, 28 P2.7/A15/CCP2_3, 29 P0.0/AD0, 30 P0.1/AD1, 31 P0.2/AD2, 32 P0.3/AD3

## STC15W2K60S2_LQFP44
designator U?
footprint LQFP44
footprint PQFP44
pins: 1 P0.5/AD5, 2 P0.6/AD6, 3 P0.7/AD7, 4 P1.0/ADC0/CCP1/RXD2, 5 P1.1/ADC1/CCP0/TXD2, 6 P4.7/TXD2_2, 7 P1.2/ADC2/SS/ECI/CMPO, 8 P1.3/ADC3/MOSI, 9 P1.4/ADC4/MISO, 10 P1.5/ADC5/SCLK, 11 P1.6/ADC6/RXD_3/XTAL2, 12 P1.7/ADC7/TXD_3/XTAL1, 13 P5.4/RST/MCLKO/SS_3/CMP-, 14 VCC, 15 P5.5/CMP+, 16 GND, 17 P4.0/MOSI_3, 18 P3.0/RXD/~{INT4}/T2CLKO, 19 P3.1/TXD/T2, 20 P3.2/INT0, 21 P3.3/INT1, 22 P3.4/T0/T1CLKO/ECI_2, 23 P3.5/T1/T0CLKO/CCP0_2, 24 P3.6/~{INT2}/RXD_2/CCP1_2, 25 P3.7/~{INT3}/TXD_2/CCP2/CCP2_2, 26 P4.1/MISO_3, 27 P4.2/~{WR}, 28 P4.3/SCLK_3, 29 P4.4/~{RD}, 30 P2.0/A8/RSTOUT_LOW, 31 P2.1/A9/SCLK_2, 32 P2.2/A10/MISO_2, 33 P2.3/A11/MOSI_2, 34 P2.4/A12/ECI_3/SS_2, 35 P2.5/A13/CCP0_3, 36 P2.6/A14/CCP1_3, 37 P2.7/A15/CCP2_3, 38 P4.5/ALE, 39 P4.6/RXD2_2, 40 P0.0/AD0, 41 P0.1/AD1, 42 P0.2/AD2, 43 P0.3/AD3, 44 P0.4/AD4

## STC15W2K60S2_PDIP40
designator U?
footprint DIP40
pins: 1 P0.0/AD0, 2 P0.1/AD1, 3 P0.2/AD2, 4 P0.3/AD3, 5 P0.4/AD4, 6 P0.5/AD5, 7 P0.6/AD6, 8 P0.7/AD7, 9 P1.0/ADC0/CCP1/RXD2, 10 P1.1/ADC1/CCP0/TXD2, 11 P1.2/ADC2/SS/ECI/CMPO, 12 P1.3/ADC3/MOSI, 13 P1.4/ADC4/MISO, 14 P1.5/ADC5/SCLK, 15 P1.6/ADC6/RXD_3/XTAL2, 16 P1.7/ADC7/TXD_3/XTAL1, 17 P5.4/RST/MCLKO/SS_3/CMP-, 18 VCC, 19 P5.5/CMP+, 20 GND, 21 P3.0/RXD/~{INT4}/T2CLKO, 22 P3.1/TXD/T2, 23 P3.2/INT0, 24 P3.3/INT1, 25 P3.4/T0/T1CLKO/ECI_2, 26 P3.5/T1/T0CLKO/CCP0_2, 27 P3.6/~{INT2}/RXD_2/CCP1_2, 28 P3.7/~{INT3}/TXD_2/CCP2/CCP2_2, 29 P4.1/MISO_3, 30 P4.2/~{WR}, 31 P4.4/~{RD}, 32 P2.0/A8/RSTOUT_LOW, 33 P2.1/A9/SCLK_2, 34 P2.2/A10/MISO_2, 35 P2.3/A11/MOSI_2, 36 P2.4/A12/ECI_3/SS_2, 37 P2.5/A13/CCP0_3, 38 P2.6/A14/CCP1_3, 39 P2.7/A15/CCP2_3, 40 P4.5/ALE

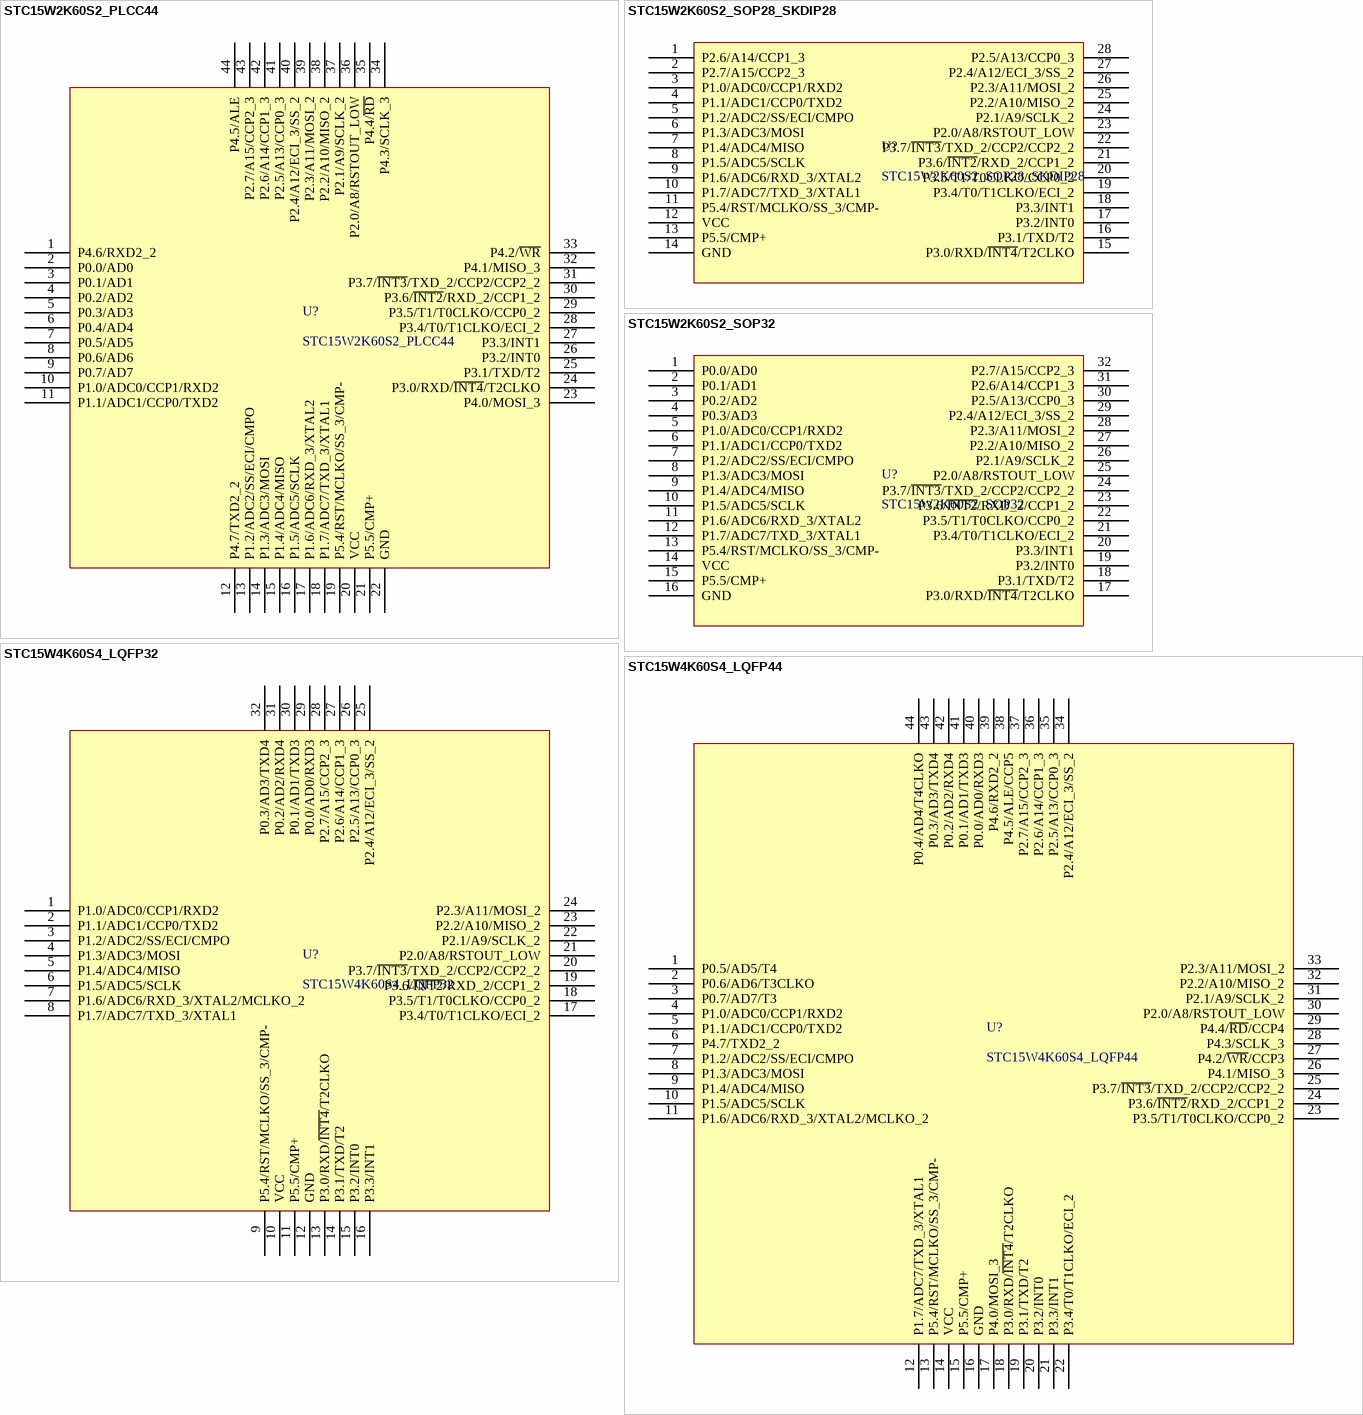
[diagram p5: symbols STC15W2K60S2_PLCC44 to STC15W4K60S4_LQFP44]

## STC15W2K60S2_PLCC44
designator U?
footprint PLCC44
pins: 1 P4.6/RXD2_2, 2 P0.0/AD0, 3 P0.1/AD1, 4 P0.2/AD2, 5 P0.3/AD3, 6 P0.4/AD4, 7 P0.5/AD5, 8 P0.6/AD6, 9 P0.7/AD7, 10 P1.0/ADC0/CCP1/RXD2, 11 P1.1/ADC1/CCP0/TXD2, 12 P4.7/TXD2_2, 13 P1.2/ADC2/SS/ECI/CMPO, 14 P1.3/ADC3/MOSI, 15 P1.4/ADC4/MISO, 16 P1.5/ADC5/SCLK, 17 P1.6/ADC6/RXD_3/XTAL2, 18 P1.7/ADC7/TXD_3/XTAL1, 19 P5.4/RST/MCLKO/SS_3/CMP-, 20 VCC, 21 P5.5/CMP+, 22 GND, 23 P4.0/MOSI_3, 24 P3.0/RXD/~{INT4}/T2CLKO, 25 P3.1/TXD/T2, 26 P3.2/INT0, 27 P3.3/INT1, 28 P3.4/T0/T1CLKO/ECI_2, 29 P3.5/T1/T0CLKO/CCP0_2, 30 P3.6/~{INT2}/RXD_2/CCP1_2, 31 P3.7/~{INT3}/TXD_2/CCP2/CCP2_2, 32 P4.1/MISO_3, 33 P4.2/~{WR}, 34 P4.3/SCLK_3, 35 P4.4/~{RD}, 36 P2.0/A8/RSTOUT_LOW, 37 P2.1/A9/SCLK_2, 38 P2.2/A10/MISO_2, 39 P2.3/A11/MOSI_2, 40 P2.4/A12/ECI_3/SS_2, 41 P2.5/A13/CCP0_3, 42 P2.6/A14/CCP1_3, 43 P2.7/A15/CCP2_3, 44 P4.5/ALE

## STC15W2K60S2_SOP28_SKDIP28
designator U?
footprint SKDIP28
footprint SOP28
footprint TSSOP28
pins: 1 P2.6/A14/CCP1_3, 2 P2.7/A15/CCP2_3, 3 P1.0/ADC0/CCP1/RXD2, 4 P1.1/ADC1/CCP0/TXD2, 5 P1.2/ADC2/SS/ECI/CMPO, 6 P1.3/ADC3/MOSI, 7 P1.4/ADC4/MISO, 8 P1.5/ADC5/SCLK, 9 P1.6/ADC6/RXD_3/XTAL2, 10 P1.7/ADC7/TXD_3/XTAL1, 11 P5.4/RST/MCLKO/SS_3/CMP-, 12 VCC, 13 P5.5/CMP+, 14 GND, 15 P3.0/RXD/~{INT4}/T2CLKO, 16 P3.1/TXD/T2, 17 P3.2/INT0, 18 P3.3/INT1, 19 P3.4/T0/T1CLKO/ECI_2, 20 P3.5/T1/T0CLKO/CCP0_2, 21 P3.6/~{INT2}/RXD_2/CCP1_2, 22 P3.7/~{INT3}/TXD_2/CCP2/CCP2_2, 23 P2.0/A8/RSTOUT_LOW, 24 P2.1/A9/SCLK_2, 25 P2.2/A10/MISO_2, 26 P2.3/A11/MOSI_2, 27 P2.4/A12/ECI_3/SS_2, 28 P2.5/A13/CCP0_3

## STC15W2K60S2_SOP32
designator U?
footprint SOP32
pins: 1 P0.0/AD0, 2 P0.1/AD1, 3 P0.2/AD2, 4 P0.3/AD3, 5 P1.0/ADC0/CCP1/RXD2, 6 P1.1/ADC1/CCP0/TXD2, 7 P1.2/ADC2/SS/ECI/CMPO, 8 P1.3/ADC3/MOSI, 9 P1.4/ADC4/MISO, 10 P1.5/ADC5/SCLK, 11 P1.6/ADC6/RXD_3/XTAL2, 12 P1.7/ADC7/TXD_3/XTAL1, 13 P5.4/RST/MCLKO/SS_3/CMP-, 14 VCC, 15 P5.5/CMP+, 16 GND, 17 P3.0/RXD/~{INT4}/T2CLKO, 18 P3.1/TXD/T2, 19 P3.2/INT0, 20 P3.3/INT1, 21 P3.4/T0/T1CLKO/ECI_2, 22 P3.5/T1/T0CLKO/CCP0_2, 23 P3.6/~{INT2}/RXD_2/CCP1_2, 24 P3.7/~{INT3}/TXD_2/CCP2/CCP2_2, 25 P2.0/A8/RSTOUT_LOW, 26 P2.1/A9/SCLK_2, 27 P2.2/A10/MISO_2, 28 P2.3/A11/MOSI_2, 29 P2.4/A12/ECI_3/SS_2, 30 P2.5/A13/CCP0_3, 31 P2.6/A14/CCP1_3, 32 P2.7/A15/CCP2_3

## STC15W4K60S4_LQFP32
designator U?
footprint LQFP32
pins: 1 P1.0/ADC0/CCP1/RXD2, 2 P1.1/ADC1/CCP0/TXD2, 3 P1.2/ADC2/SS/ECI/CMPO, 4 P1.3/ADC3/MOSI, 5 P1.4/ADC4/MISO, 6 P1.5/ADC5/SCLK, 7 P1.6/ADC6/RXD_3/XTAL2/MCLKO_2, 8 P1.7/ADC7/TXD_3/XTAL1, 9 P5.4/RST/MCLKO/SS_3/CMP-, 10 VCC, 11 P5.5/CMP+, 12 GND, 13 P3.0/RXD/~{INT4}/T2CLKO, 14 P3.1/TXD/T2, 15 P3.2/INT0, 16 P3.3/INT1, 17 P3.4/T0/T1CLKO/ECI_2, 18 P3.5/T1/T0CLKO/CCP0_2, 19 P3.6/~{INT2}/RXD_2/CCP1_2, 20 P3.7/~{INT3}/TXD_2/CCP2/CCP2_2, 21 P2.0/A8/RSTOUT_LOW, 22 P2.1/A9/SCLK_2, 23 P2.2/A10/MISO_2, 24 P2.3/A11/MOSI_2, 25 P2.4/A12/ECI_3/SS_2, 26 P2.5/A13/CCP0_3, 27 P2.6/A14/CCP1_3, 28 P2.7/A15/CCP2_3, 29 P0.0/AD0/RXD3, 30 P0.1/AD1/TXD3, 31 P0.2/AD2/RXD4, 32 P0.3/AD3/TXD4

## STC15W4K60S4_LQFP44
designator U?
footprint LQFP44
footprint PQFP44
pins: 1 P0.5/AD5/T4, 2 P0.6/AD6/T3CLKO, 3 P0.7/AD7/T3, 4 P1.0/ADC0/CCP1/RXD2, 5 P1.1/ADC1/CCP0/TXD2, 6 P4.7/TXD2_2, 7 P1.2/ADC2/SS/ECI/CMPO, 8 P1.3/ADC3/MOSI, 9 P1.4/ADC4/MISO, 10 P1.5/ADC5/SCLK, 11 P1.6/ADC6/RXD_3/XTAL2/MCLKO_2, 12 P1.7/ADC7/TXD_3/XTAL1, 13 P5.4/RST/MCLKO/SS_3/CMP-, 14 VCC, 15 P5.5/CMP+, 16 GND, 17 P4.0/MOSI_3, 18 P3.0/RXD/~{INT4}/T2CLKO, 19 P3.1/TXD/T2, 20 P3.2/INT0, 21 P3.3/INT1, 22 P3.4/T0/T1CLKO/ECI_2, 23 P3.5/T1/T0CLKO/CCP0_2, 24 P3.6/~{INT2}/RXD_2/CCP1_2, 25 P3.7/~{INT3}/TXD_2/CCP2/CCP2_2, 26 P4.1/MISO_3, 27 P4.2/~{WR}/CCP3, 28 P4.3/SCLK_3, 29 P4.4/~{RD}/CCP4, 30 P2.0/A8/RSTOUT_LOW, 31 P2.1/A9/SCLK_2, 32 P2.2/A10/MISO_2, 33 P2.3/A11/MOSI_2, 34 P2.4/A12/ECI_3/SS_2, 35 P2.5/A13/CCP0_3, 36 P2.6/A14/CCP1_3, 37 P2.7/A15/CCP2_3, 38 P4.5/ALE/CCP5, 39 P4.6/RXD2_2, 40 P0.0/AD0/RXD3, 41 P0.1/AD1/TXD3, 42 P0.2/AD2/RXD4, 43 P0.3/AD3/TXD4, 44 P0.4/AD4/T4CLKO

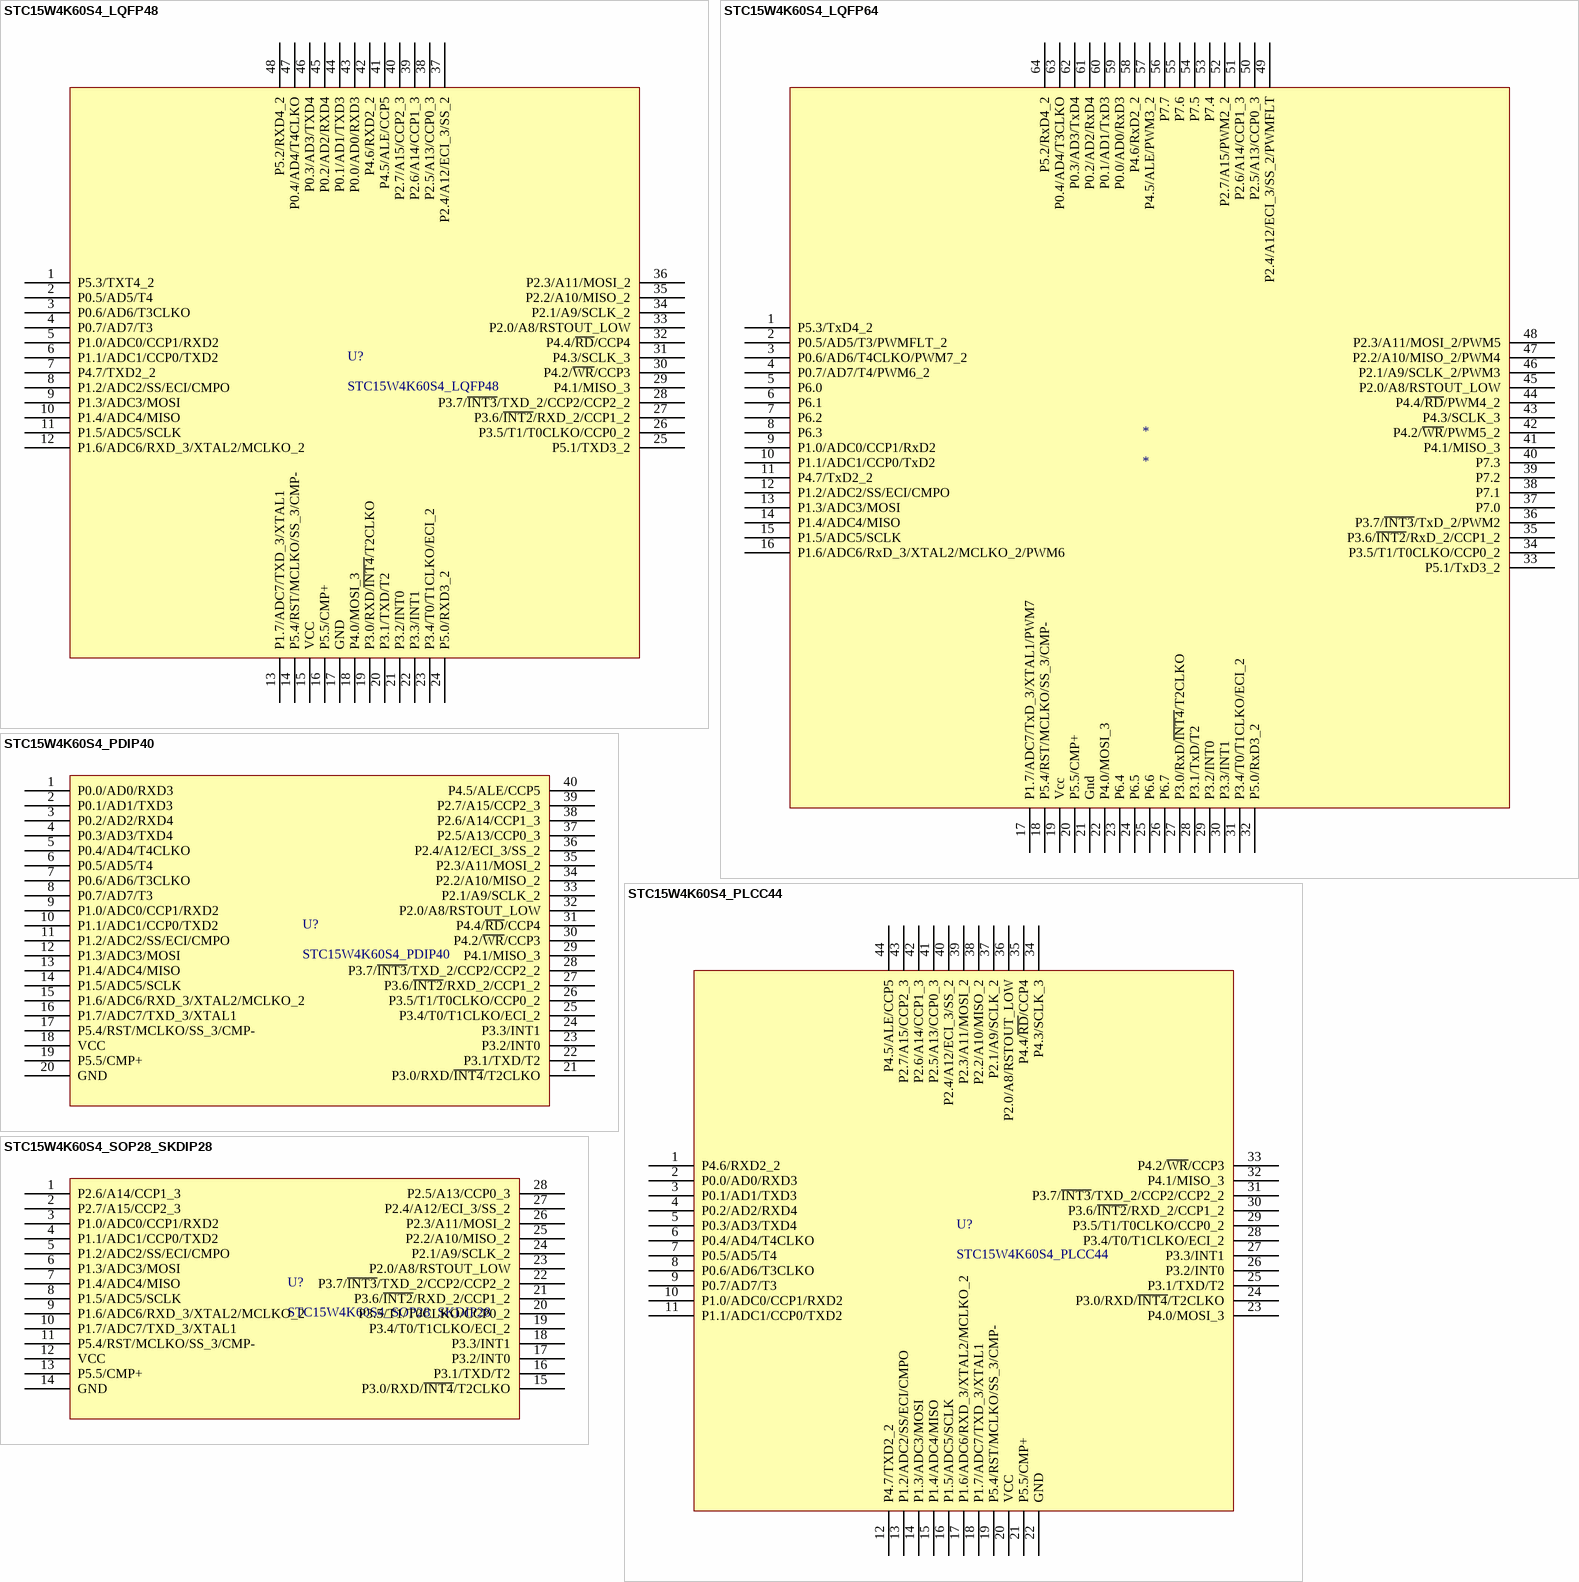
[diagram p6: symbols STC15W4K60S4_LQFP48 to STC15W4K60S4_SOP28_SKDIP28]

## STC15W4K60S4_LQFP48
designator U?
footprint LQFP48
pins: 1 P5.3/TXT4_2, 2 P0.5/AD5/T4, 3 P0.6/AD6/T3CLKO, 4 P0.7/AD7/T3, 5 P1.0/ADC0/CCP1/RXD2, 6 P1.1/ADC1/CCP0/TXD2, 7 P4.7/TXD2_2, 8 P1.2/ADC2/SS/ECI/CMPO, 9 P1.3/ADC3/MOSI, 10 P1.4/ADC4/MISO, 11 P1.5/ADC5/SCLK, 12 P1.6/ADC6/RXD_3/XTAL2/MCLKO_2, 13 P1.7/ADC7/TXD_3/XTAL1, 14 P5.4/RST/MCLKO/SS_3/CMP-, 15 VCC, 16 P5.5/CMP+, 17 GND, 18 P4.0/MOSI_3, 19 P3.0/RXD/~{INT4}/T2CLKO, 20 P3.1/TXD/T2, 21 P3.2/INT0, 22 P3.3/INT1, 23 P3.4/T0/T1CLKO/ECI_2, 24 P5.0/RXD3_2, 25 P5.1/TXD3_2, 26 P3.5/T1/T0CLKO/CCP0_2, 27 P3.6/~{INT2}/RXD_2/CCP1_2, 28 P3.7/~{INT3}/TXD_2/CCP2/CCP2_2, 29 P4.1/MISO_3, 30 P4.2/~{WR}/CCP3, 31 P4.3/SCLK_3, 32 P4.4/~{RD}/CCP4, 33 P2.0/A8/RSTOUT_LOW, 34 P2.1/A9/SCLK_2, 35 P2.2/A10/MISO_2, 36 P2.3/A11/MOSI_2, 37 P2.4/A12/ECI_3/SS_2, 38 P2.5/A13/CCP0_3, 39 P2.6/A14/CCP1_3, 40 P2.7/A15/CCP2_3, 41 P4.5/ALE/CCP5, 42 P4.6/RXD2_2, 43 P0.0/AD0/RXD3, 44 P0.1/AD1/TXD3, 45 P0.2/AD2/RXD4, 46 P0.3/AD3/TXD4, 47 P0.4/AD4/T4CLKO, 48 P5.2/RXD4_2

## STC15W4K60S4_LQFP64
designator *
pins: 1 P5.3/TxD4_2, 2 P0.5/AD5/T3/PWMFLT_2, 3 P0.6/AD6/T4CLKO/PWM7_2, 4 P0.7/AD7/T4/PWM6_2, 5 P6.0, 6 P6.1, 7 P6.2, 8 P6.3, 9 P1.0/ADC0/CCP1/RxD2, 10 P1.1/ADC1/CCP0/TxD2, 11 P4.7/TxD2_2, 12 P1.2/ADC2/SS/ECI/CMPO, 13 P1.3/ADC3/MOSI, 14 P1.4/ADC4/MISO, 15 P1.5/ADC5/SCLK, 16 P1.6/ADC6/RxD_3/XTAL2/MCLKO_2/PWM6, 17 P1.7/ADC7/TxD_3/XTAL1/PWM7, 18 P5.4/RST/MCLKO/SS_3/CMP-, 19 Vcc, 20 P5.5/CMP+, 21 Gnd, 22 P4.0/MOSI_3, 23 P6.4, 24 P6.5, 25 P6.6, 26 P6.7, 27 P3.0/RxD/~{INT4}/T2CLKO, 28 P3.1/TxD/T2, 29 P3.2/INT0, 30 P3.3/INT1, 31 P3.4/T0/T1CLKO/ECI_2, 32 P5.0/RxD3_2, 33 P5.1/TxD3_2, 34 P3.5/T1/T0CLKO/CCP0_2, 35 P3.6/~{INT2}/RxD_2/CCP1_2, 36 P3.7/~{INT3}/TxD_2/PWM2, 37 P7.0, 38 P7.1, 39 P7.2, 40 P7.3, 41 P4.1/MISO_3, 42 P4.2/~{WR}/PWM5_2, 43 P4.3/SCLK_3, 44 P4.4/~{RD}/PWM4_2, 45 P2.0/A8/RSTOUT_LOW, 46 P2.1/A9/SCLK_2/PWM3, 47 P2.2/A10/MISO_2/PWM4, 48 P2.3/A11/MOSI_2/PWM5, 49 P2.4/A12/ECI_3/SS_2/PWMFLT, 50 P2.5/A13/CCP0_3, 51 P2.6/A14/CCP1_3, 52 P2.7/A15/PWM2_2, 53 P7.4, 54 P7.5, 55 P7.6, 56 P7.7, 57 P4.5/ALE/PWM3_2, 58 P4.6/RxD2_2, 59 P0.0/AD0/RxD3, 60 P0.1/AD1/TxD3, 61 P0.2/AD2/RxD4, 62 P0.3/AD3/TxD4, 63 P0.4/AD4/T3CLKO, 64 P5.2/RxD4_2

## STC15W4K60S4_PDIP40
designator U?
footprint DIP40
pins: 1 P0.0/AD0/RXD3, 2 P0.1/AD1/TXD3, 3 P0.2/AD2/RXD4, 4 P0.3/AD3/TXD4, 5 P0.4/AD4/T4CLKO, 6 P0.5/AD5/T4, 7 P0.6/AD6/T3CLKO, 8 P0.7/AD7/T3, 9 P1.0/ADC0/CCP1/RXD2, 10 P1.1/ADC1/CCP0/TXD2, 11 P1.2/ADC2/SS/ECI/CMPO, 12 P1.3/ADC3/MOSI, 13 P1.4/ADC4/MISO, 14 P1.5/ADC5/SCLK, 15 P1.6/ADC6/RXD_3/XTAL2/MCLKO_2, 16 P1.7/ADC7/TXD_3/XTAL1, 17 P5.4/RST/MCLKO/SS_3/CMP-, 18 VCC, 19 P5.5/CMP+, 20 GND, 21 P3.0/RXD/~{INT4}/T2CLKO, 22 P3.1/TXD/T2, 23 P3.2/INT0, 24 P3.3/INT1, 25 P3.4/T0/T1CLKO/ECI_2, 26 P3.5/T1/T0CLKO/CCP0_2, 27 P3.6/~{INT2}/RXD_2/CCP1_2, 28 P3.7/~{INT3}/TXD_2/CCP2/CCP2_2, 29 P4.1/MISO_3, 30 P4.2/~{WR}/CCP3, 31 P4.4/~{RD}/CCP4, 32 P2.0/A8/RSTOUT_LOW, 33 P2.1/A9/SCLK_2, 34 P2.2/A10/MISO_2, 35 P2.3/A11/MOSI_2, 36 P2.4/A12/ECI_3/SS_2, 37 P2.5/A13/CCP0_3, 38 P2.6/A14/CCP1_3, 39 P2.7/A15/CCP2_3, 40 P4.5/ALE/CCP5

## STC15W4K60S4_PLCC44
designator U?
footprint PLCC44
pins: 1 P4.6/RXD2_2, 2 P0.0/AD0/RXD3, 3 P0.1/AD1/TXD3, 4 P0.2/AD2/RXD4, 5 P0.3/AD3/TXD4, 6 P0.4/AD4/T4CLKO, 7 P0.5/AD5/T4, 8 P0.6/AD6/T3CLKO, 9 P0.7/AD7/T3, 10 P1.0/ADC0/CCP1/RXD2, 11 P1.1/ADC1/CCP0/TXD2, 12 P4.7/TXD2_2, 13 P1.2/ADC2/SS/ECI/CMPO, 14 P1.3/ADC3/MOSI, 15 P1.4/ADC4/MISO, 16 P1.5/ADC5/SCLK, 17 P1.6/ADC6/RXD_3/XTAL2/MCLKO_2, 18 P1.7/ADC7/TXD_3/XTAL1, 19 P5.4/RST/MCLKO/SS_3/CMP-, 20 VCC, 21 P5.5/CMP+, 22 GND, 23 P4.0/MOSI_3, 24 P3.0/RXD/~{INT4}/T2CLKO, 25 P3.1/TXD/T2, 26 P3.2/INT0, 27 P3.3/INT1, 28 P3.4/T0/T1CLKO/ECI_2, 29 P3.5/T1/T0CLKO/CCP0_2, 30 P3.6/~{INT2}/RXD_2/CCP1_2, 31 P3.7/~{INT3}/TXD_2/CCP2/CCP2_2, 32 P4.1/MISO_3, 33 P4.2/~{WR}/CCP3, 34 P4.3/SCLK_3, 35 P4.4/~{RD}/CCP4, 36 P2.0/A8/RSTOUT_LOW, 37 P2.1/A9/SCLK_2, 38 P2.2/A10/MISO_2, 39 P2.3/A11/MOSI_2, 40 P2.4/A12/ECI_3/SS_2, 41 P2.5/A13/CCP0_3, 42 P2.6/A14/CCP1_3, 43 P2.7/A15/CCP2_3, 44 P4.5/ALE/CCP5

## STC15W4K60S4_SOP28_SKDIP28
designator U?
footprint SKDIP28
footprint SOP28
footprint TSSOP28
pins: 1 P2.6/A14/CCP1_3, 2 P2.7/A15/CCP2_3, 3 P1.0/ADC0/CCP1/RXD2, 4 P1.1/ADC1/CCP0/TXD2, 5 P1.2/ADC2/SS/ECI/CMPO, 6 P1.3/ADC3/MOSI, 7 P1.4/ADC4/MISO, 8 P1.5/ADC5/SCLK, 9 P1.6/ADC6/RXD_3/XTAL2/MCLKO_2, 10 P1.7/ADC7/TXD_3/XTAL1, 11 P5.4/RST/MCLKO/SS_3/CMP-, 12 VCC, 13 P5.5/CMP+, 14 GND, 15 P3.0/RXD/~{INT4}/T2CLKO, 16 P3.1/TXD/T2, 17 P3.2/INT0, 18 P3.3/INT1, 19 P3.4/T0/T1CLKO/ECI_2, 20 P3.5/T1/T0CLKO/CCP0_2, 21 P3.6/~{INT2}/RXD_2/CCP1_2, 22 P3.7/~{INT3}/TXD_2/CCP2/CCP2_2, 23 P2.0/A8/RSTOUT_LOW, 24 P2.1/A9/SCLK_2, 25 P2.2/A10/MISO_2, 26 P2.3/A11/MOSI_2, 27 P2.4/A12/ECI_3/SS_2, 28 P2.5/A13/CCP0_3

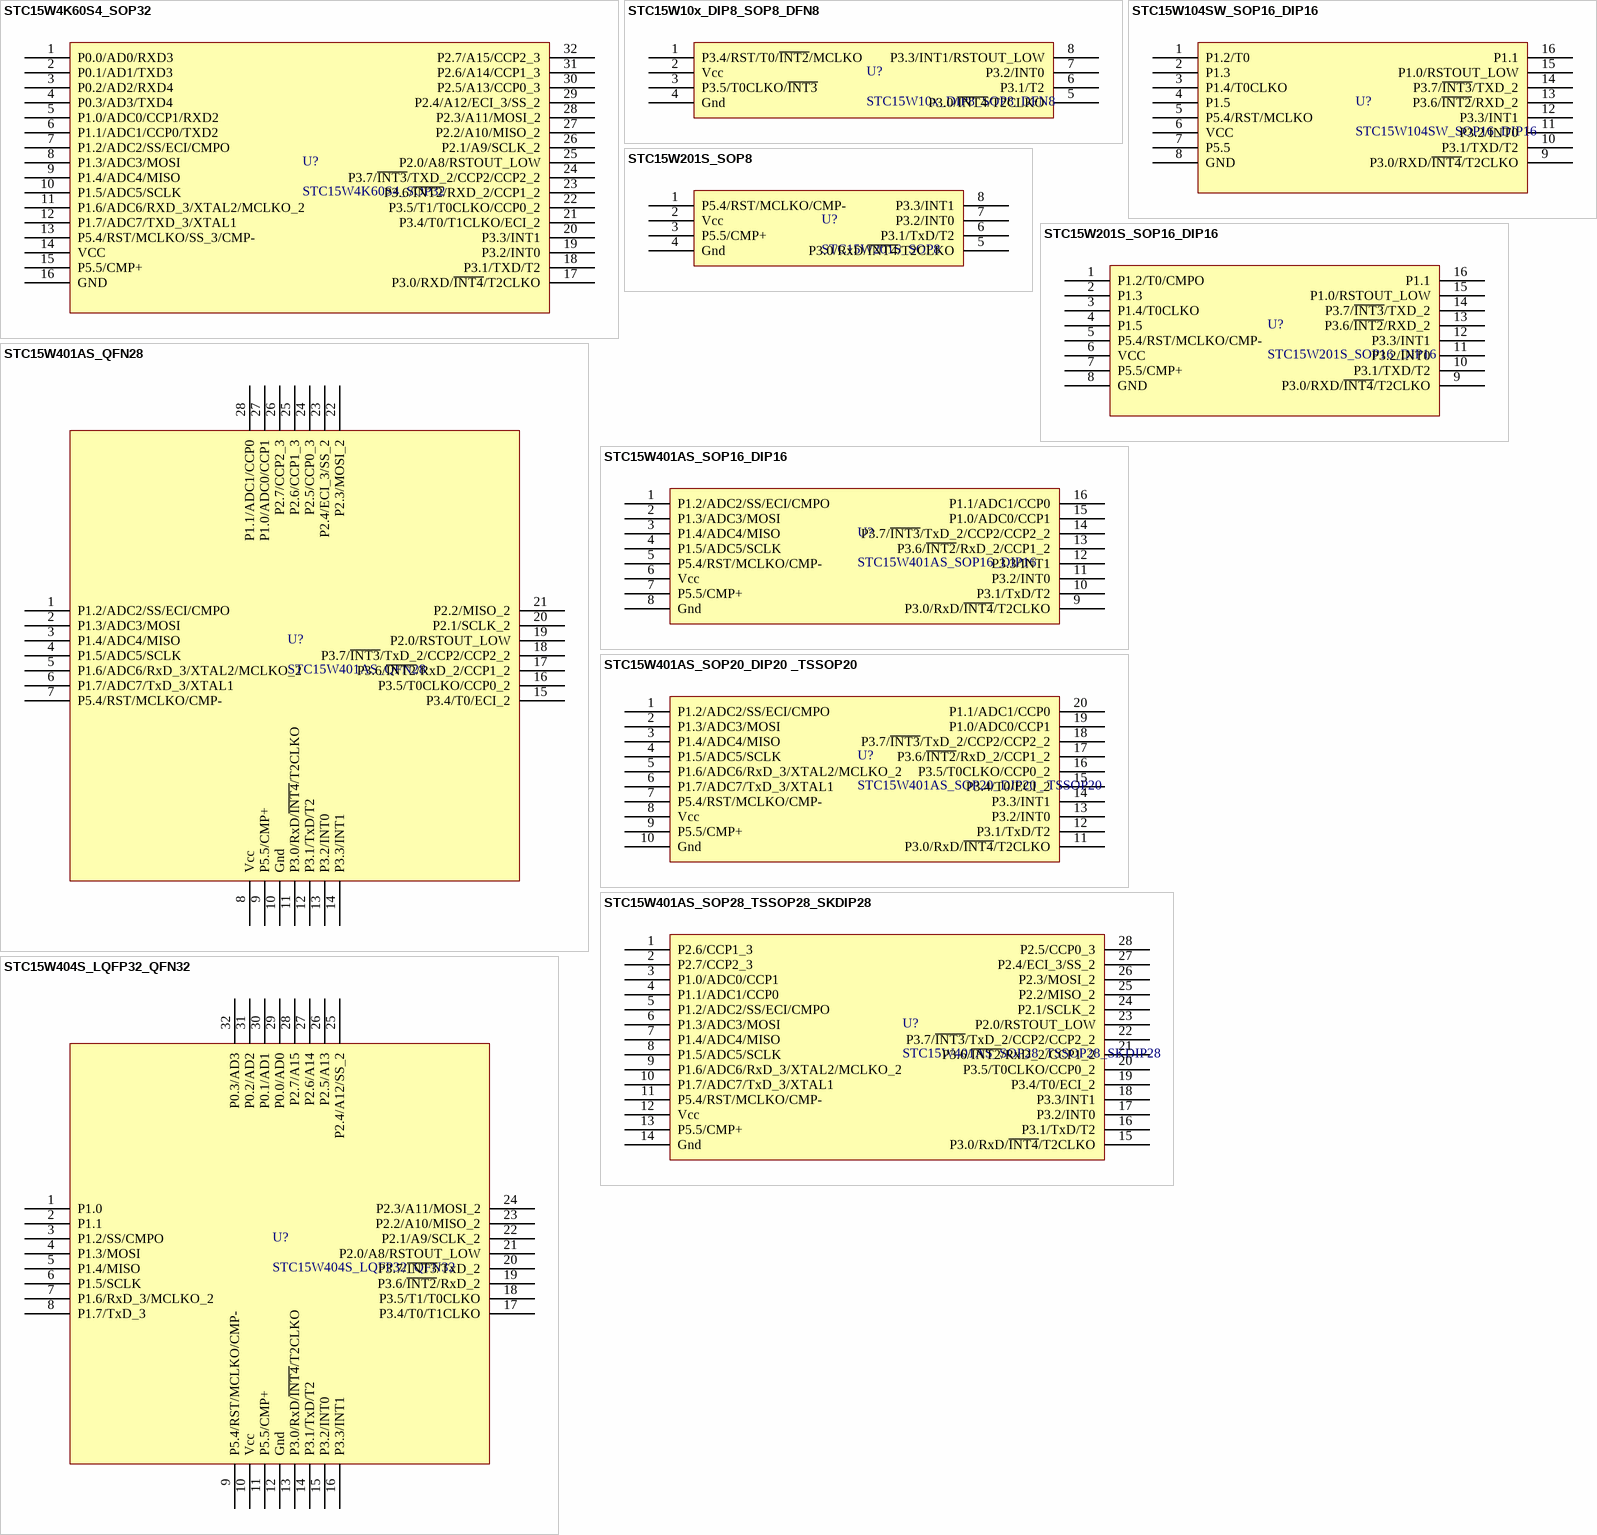
[diagram p7: symbols STC15W4K60S4_SOP32 to STC15W404S_LQFP32_QFN32]

## STC15W4K60S4_SOP32
designator U?
footprint SOP32
pins: 1 P0.0/AD0/RXD3, 2 P0.1/AD1/TXD3, 3 P0.2/AD2/RXD4, 4 P0.3/AD3/TXD4, 5 P1.0/ADC0/CCP1/RXD2, 6 P1.1/ADC1/CCP0/TXD2, 7 P1.2/ADC2/SS/ECI/CMPO, 8 P1.3/ADC3/MOSI, 9 P1.4/ADC4/MISO, 10 P1.5/ADC5/SCLK, 11 P1.6/ADC6/RXD_3/XTAL2/MCLKO_2, 12 P1.7/ADC7/TXD_3/XTAL1, 13 P5.4/RST/MCLKO/SS_3/CMP-, 14 VCC, 15 P5.5/CMP+, 16 GND, 17 P3.0/RXD/~{INT4}/T2CLKO, 18 P3.1/TXD/T2, 19 P3.2/INT0, 20 P3.3/INT1, 21 P3.4/T0/T1CLKO/ECI_2, 22 P3.5/T1/T0CLKO/CCP0_2, 23 P3.6/~{INT2}/RXD_2/CCP1_2, 24 P3.7/~{INT3}/TXD_2/CCP2/CCP2_2, 25 P2.0/A8/RSTOUT_LOW, 26 P2.1/A9/SCLK_2, 27 P2.2/A10/MISO_2, 28 P2.3/A11/MOSI_2, 29 P2.4/A12/ECI_3/SS_2, 30 P2.5/A13/CCP0_3, 31 P2.6/A14/CCP1_3, 32 P2.7/A15/CCP2_3

## STC15W10x_DIP8_SOP8_DFN8
designator U?
footprint DFN8
footprint DIP8
footprint SOP8
pins: 1 P3.4/RST/T0/~{INT2}/MCLKO, 2 Vcc, 3 P3.5/T0CLKO/~{INT3}, 4 Gnd, 5 P3.0/~{INT4}/T2CLKO, 6 P3.1/T2, 7 P3.2/INT0, 8 P3.3/INT1/RSTOUT_LOW

## STC15W104SW_SOP16_DIP16
designator U?
footprint DIP16
footprint SOP16
pins: 1 P1.2/T0, 2 P1.3, 3 P1.4/T0CLKO, 4 P1.5, 5 P5.4/RST/MCLKO, 6 VCC, 7 P5.5, 8 GND, 9 P3.0/RXD/~{INT4}/T2CLKO, 10 P3.1/TXD/T2, 11 P3.2/INT0, 12 P3.3/INT1, 13 P3.6/~{INT2}/RXD_2, 14 P3.7/~{INT3}/TXD_2, 15 P1.0/RSTOUT_LOW, 16 P1.1

## STC15W201S_SOP8
designator U?
footprint SOP8
pins: 1 P5.4/RST/MCLKO/CMP-, 2 Vcc, 3 P5.5/CMP+, 4 Gnd, 5 P3.0/RxD/~{INT4}/T2CLKO, 6 P3.1/TxD/T2, 7 P3.2/INT0, 8 P3.3/INT1

## STC15W201S_SOP16_DIP16
designator U?
footprint DIP16
footprint SOP16
pins: 1 P1.2/T0/CMPO, 2 P1.3, 3 P1.4/T0CLKO, 4 P1.5, 5 P5.4/RST/MCLKO/CMP-, 6 VCC, 7 P5.5/CMP+, 8 GND, 9 P3.0/RXD/~{INT4}/T2CLKO, 10 P3.1/TXD/T2, 11 P3.2/INT0, 12 P3.3/INT1, 13 P3.6/~{INT2}/RXD_2, 14 P3.7/~{INT3}/TXD_2, 15 P1.0/RSTOUT_LOW, 16 P1.1

## STC15W401AS_QFN28
designator U?
footprint QFN28
pins: 1 P1.2/ADC2/SS/ECI/CMPO, 2 P1.3/ADC3/MOSI, 3 P1.4/ADC4/MISO, 4 P1.5/ADC5/SCLK, 5 P1.6/ADC6/RxD_3/XTAL2/MCLKO_2, 6 P1.7/ADC7/TxD_3/XTAL1, 7 P5.4/RST/MCLKO/CMP-, 8 Vcc, 9 P5.5/CMP+, 10 Gnd, 11 P3.0/RxD/~{INT4}/T2CLKO, 12 P3.1/TxD/T2, 13 P3.2/INT0, 14 P3.3/INT1, 15 P3.4/T0/ECI_2, 16 P3.5/T0CLKO/CCP0_2, 17 P3.6/~{INT2}/RxD_2/CCP1_2, 18 P3.7/~{INT3}/TxD_2/CCP2/CCP2_2, 19 P2.0/RSTOUT_LOW, 20 P2.1/SCLK_2, 21 P2.2/MISO_2, 22 P2.3/MOSI_2, 23 P2.4/ECI_3/SS_2, 24 P2.5/CCP0_3, 25 P2.6/CCP1_3, 26 P2.7/CCP2_3, 27 P1.0/ADC0/CCP1, 28 P1.1/ADC1/CCP0

## STC15W401AS_SOP16_DIP16
designator U?
footprint SOP16
footprint DIP16
pins: 1 P1.2/ADC2/SS/ECI/CMPO, 2 P1.3/ADC3/MOSI, 3 P1.4/ADC4/MISO, 4 P1.5/ADC5/SCLK, 5 P5.4/RST/MCLKO/CMP-, 6 Vcc, 7 P5.5/CMP+, 8 Gnd, 9 P3.0/RxD/~{INT4}/T2CLKO, 10 P3.1/TxD/T2, 11 P3.2/INT0, 12 P3.3/INT1, 13 P3.6/~{INT2}/RxD_2/CCP1_2, 14 P3.7/~{INT3}/TxD_2/CCP2/CCP2_2, 15 P1.0/ADC0/CCP1, 16 P1.1/ADC1/CCP0

## STC15W401AS_SOP20_DIP20 _TSSOP20
designator U?
footprint SOP20
footprint DIP20
footprint TSSOP20
pins: 1 P1.2/ADC2/SS/ECI/CMPO, 2 P1.3/ADC3/MOSI, 3 P1.4/ADC4/MISO, 4 P1.5/ADC5/SCLK, 5 P1.6/ADC6/RxD_3/XTAL2/MCLKO_2, 6 P1.7/ADC7/TxD_3/XTAL1, 7 P5.4/RST/MCLKO/CMP-, 8 Vcc, 9 P5.5/CMP+, 10 Gnd, 11 P3.0/RxD/~{INT4}/T2CLKO, 12 P3.1/TxD/T2, 13 P3.2/INT0, 14 P3.3/INT1, 15 P3.4/T0/ECI_2, 16 P3.5/T0CLKO/CCP0_2, 17 P3.6/~{INT2}/RxD_2/CCP1_2, 18 P3.7/~{INT3}/TxD_2/CCP2/CCP2_2, 19 P1.0/ADC0/CCP1, 20 P1.1/ADC1/CCP0

## STC15W401AS_SOP28_TSSOP28_SKDIP28
designator U?
footprint SOP28
footprint TSSOP28
footprint SKDIP28
pins: 1 P2.6/CCP1_3, 2 P2.7/CCP2_3, 3 P1.0/ADC0/CCP1, 4 P1.1/ADC1/CCP0, 5 P1.2/ADC2/SS/ECI/CMPO, 6 P1.3/ADC3/MOSI, 7 P1.4/ADC4/MISO, 8 P1.5/ADC5/SCLK, 9 P1.6/ADC6/RxD_3/XTAL2/MCLKO_2, 10 P1.7/ADC7/TxD_3/XTAL1, 11 P5.4/RST/MCLKO/CMP-, 12 Vcc, 13 P5.5/CMP+, 14 Gnd, 15 P3.0/RxD/~{INT4}/T2CLKO, 16 P3.1/TxD/T2, 17 P3.2/INT0, 18 P3.3/INT1, 19 P3.4/T0/ECI_2, 20 P3.5/T0CLKO/CCP0_2, 21 P3.6/~{INT2}/RxD_2/CCP1_2, 22 P3.7/~{INT3}/TxD_2/CCP2/CCP2_2, 23 P2.0/RSTOUT_LOW, 24 P2.1/SCLK_2, 25 P2.2/MISO_2, 26 P2.3/MOSI_2, 27 P2.4/ECI_3/SS_2, 28 P2.5/CCP0_3

## STC15W404S_LQFP32_QFN32
designator U?
footprint LQFP32
footprint QFN32 (Footprint not found)
pins: 1 P1.0, 2 P1.1, 3 P1.2/SS/CMPO, 4 P1.3/MOSI, 5 P1.4/MISO, 6 P1.5/SCLK, 7 P1.6/RxD_3/MCLKO_2, 8 P1.7/TxD_3, 9 P5.4/RST/MCLKO/CMP-, 10 Vcc, 11 P5.5/CMP+, 12 Gnd, 13 P3.0/RxD/~{INT4}/T2CLKO, 14 P3.1/TxD/T2, 15 P3.2/INT0, 16 P3.3/INT1, 17 P3.4/T0/T1CLKO, 18 P3.5/T1/T0CLKO, 19 P3.6/~{INT2}/RxD_2, 20 P3.7/~{INT3}/TxD_2, 21 P2.0/A8/RSTOUT_LOW, 22 P2.1/A9/SCLK_2, 23 P2.2/A10/MISO_2, 24 P2.3/A11/MOSI_2, 25 P2.4/A12/SS_2, 26 P2.5/A13, 27 P2.6/A14, 28 P2.7/A15, 29 P0.0/AD0, 30 P0.1/AD1, 31 P0.2/AD2, 32 P0.3/AD3

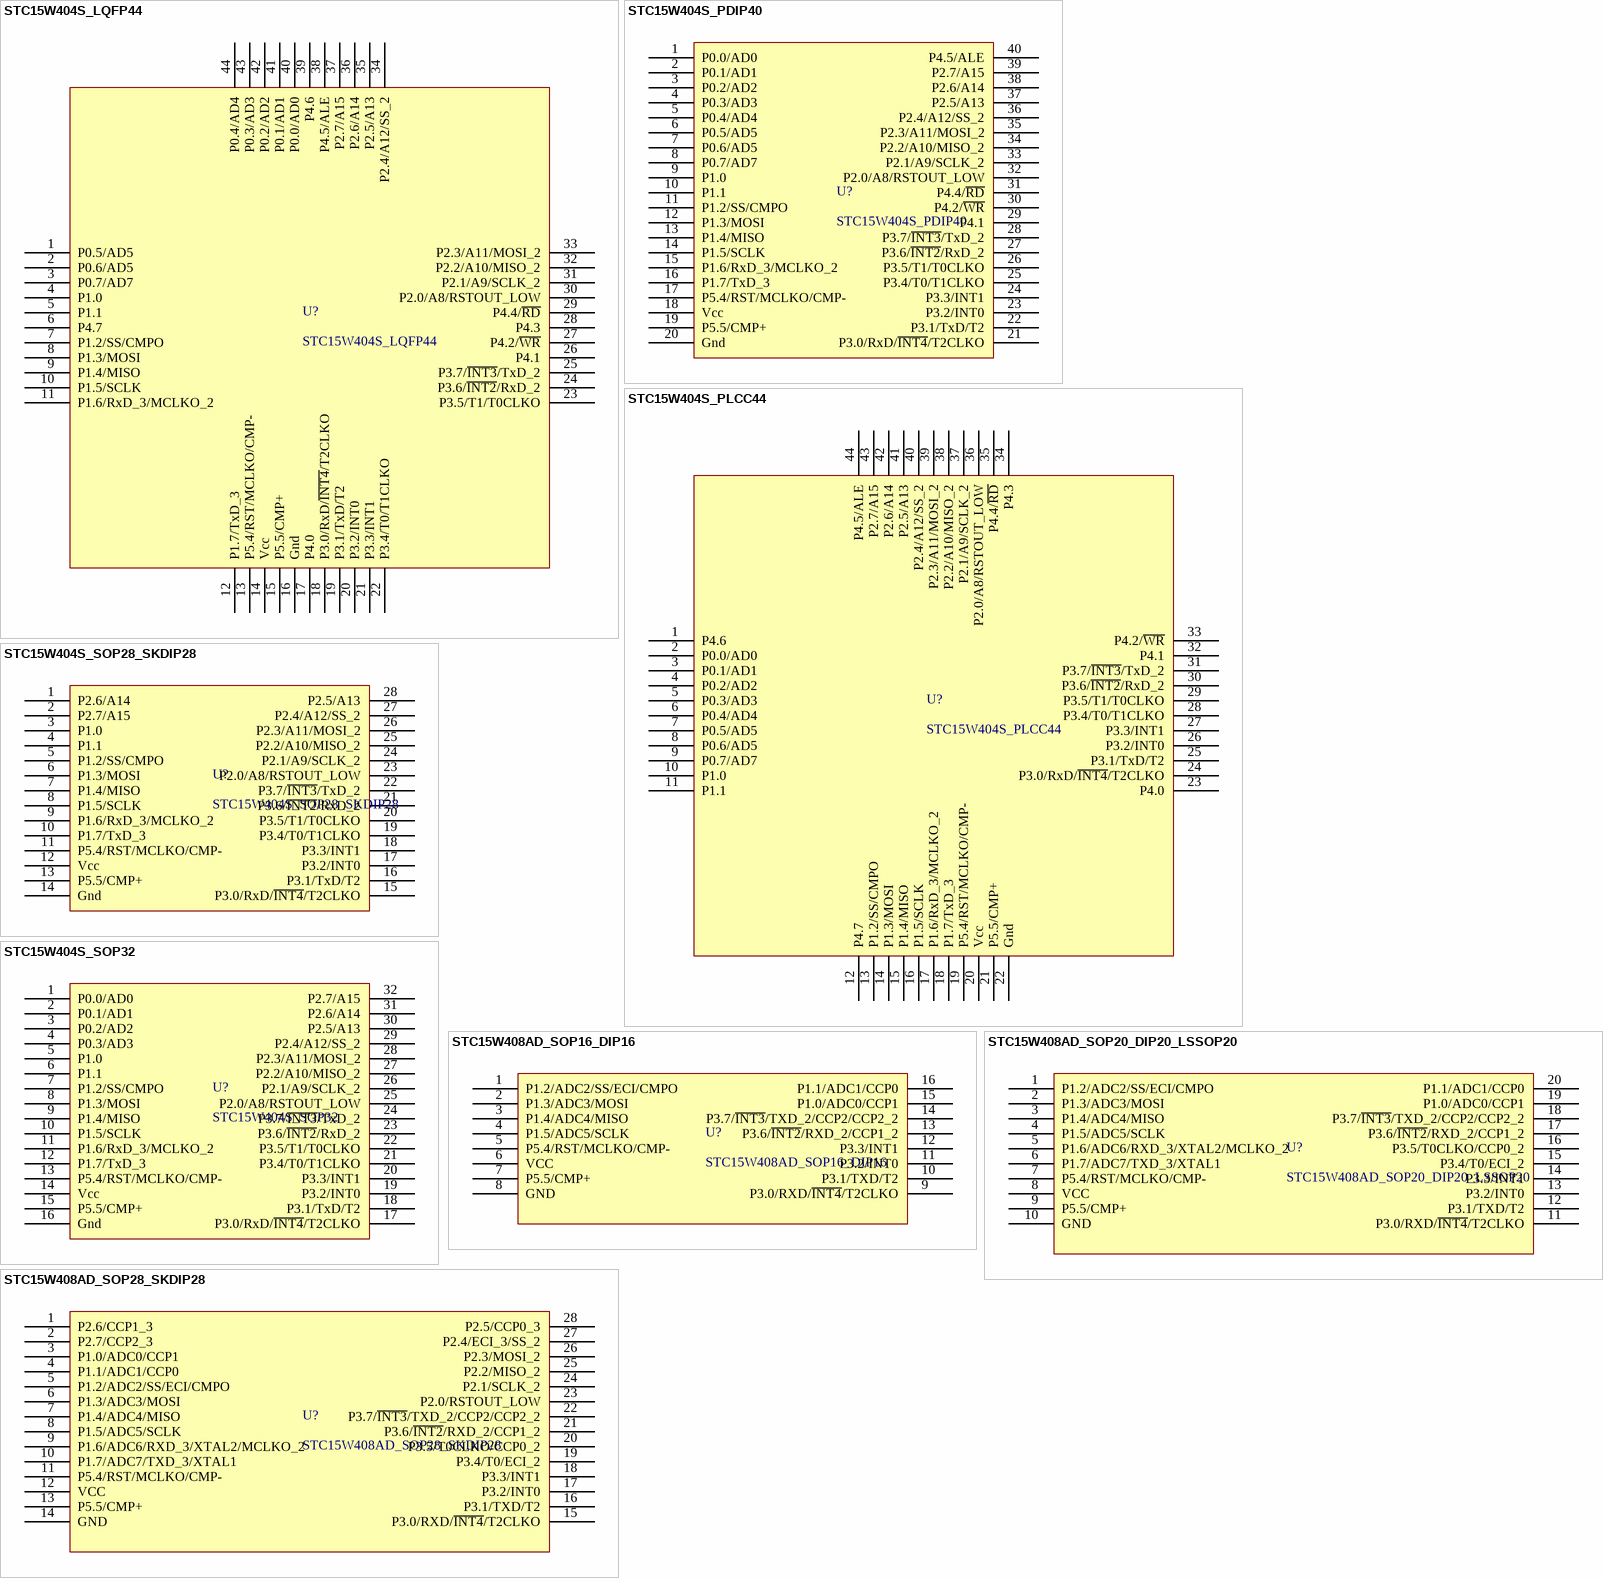
[diagram p8: symbols STC15W404S_LQFP44 to STC15W408AD_SOP28_SKDIP28]

## STC15W404S_LQFP44
designator U?
footprint LQFP44
pins: 1 P0.5/AD5, 2 P0.6/AD5, 3 P0.7/AD7, 4 P1.0, 5 P1.1, 6 P4.7, 7 P1.2/SS/CMPO, 8 P1.3/MOSI, 9 P1.4/MISO, 10 P1.5/SCLK, 11 P1.6/RxD_3/MCLKO_2, 12 P1.7/TxD_3, 13 P5.4/RST/MCLKO/CMP-, 14 Vcc, 15 P5.5/CMP+, 16 Gnd, 17 P4.0, 18 P3.0/RxD/~{INT4}/T2CLKO, 19 P3.1/TxD/T2, 20 P3.2/INT0, 21 P3.3/INT1, 22 P3.4/T0/T1CLKO, 23 P3.5/T1/T0CLKO, 24 P3.6/~{INT2}/RxD_2, 25 P3.7/~{INT3}/TxD_2, 26 P4.1, 27 P4.2/~{WR}, 28 P4.3, 29 P4.4/~{RD}, 30 P2.0/A8/RSTOUT_LOW, 31 P2.1/A9/SCLK_2, 32 P2.2/A10/MISO_2, 33 P2.3/A11/MOSI_2, 34 P2.4/A12/SS_2, 35 P2.5/A13, 36 P2.6/A14, 37 P2.7/A15, 38 P4.5/ALE, 39 P4.6, 40 P0.0/AD0, 41 P0.1/AD1, 42 P0.2/AD2, 43 P0.3/AD3, 44 P0.4/AD4

## STC15W404S_PDIP40
designator U?
footprint DIP40
pins: 1 P0.0/AD0, 2 P0.1/AD1, 3 P0.2/AD2, 4 P0.3/AD3, 5 P0.4/AD4, 6 P0.5/AD5, 7 P0.6/AD5, 8 P0.7/AD7, 9 P1.0, 10 P1.1, 11 P1.2/SS/CMPO, 12 P1.3/MOSI, 13 P1.4/MISO, 14 P1.5/SCLK, 15 P1.6/RxD_3/MCLKO_2, 16 P1.7/TxD_3, 17 P5.4/RST/MCLKO/CMP-, 18 Vcc, 19 P5.5/CMP+, 20 Gnd, 21 P3.0/RxD/~{INT4}/T2CLKO, 22 P3.1/TxD/T2, 23 P3.2/INT0, 24 P3.3/INT1, 25 P3.4/T0/T1CLKO, 26 P3.5/T1/T0CLKO, 27 P3.6/~{INT2}/RxD_2, 28 P3.7/~{INT3}/TxD_2, 29 P4.1, 30 P4.2/~{WR}, 31 P4.4/~{RD}, 32 P2.0/A8/RSTOUT_LOW, 33 P2.1/A9/SCLK_2, 34 P2.2/A10/MISO_2, 35 P2.3/A11/MOSI_2, 36 P2.4/A12/SS_2, 37 P2.5/A13, 38 P2.6/A14, 39 P2.7/A15, 40 P4.5/ALE

## STC15W404S_PLCC44
designator U?
footprint PLCC44
pins: 1 P4.6, 2 P0.0/AD0, 3 P0.1/AD1, 4 P0.2/AD2, 5 P0.3/AD3, 6 P0.4/AD4, 7 P0.5/AD5, 8 P0.6/AD5, 9 P0.7/AD7, 10 P1.0, 11 P1.1, 12 P4.7, 13 P1.2/SS/CMPO, 14 P1.3/MOSI, 15 P1.4/MISO, 16 P1.5/SCLK, 17 P1.6/RxD_3/MCLKO_2, 18 P1.7/TxD_3, 19 P5.4/RST/MCLKO/CMP-, 20 Vcc, 21 P5.5/CMP+, 22 Gnd, 23 P4.0, 24 P3.0/RxD/~{INT4}/T2CLKO, 25 P3.1/TxD/T2, 26 P3.2/INT0, 27 P3.3/INT1, 28 P3.4/T0/T1CLKO, 29 P3.5/T1/T0CLKO, 30 P3.6/~{INT2}/RxD_2, 31 P3.7/~{INT3}/TxD_2, 32 P4.1, 33 P4.2/~{WR}, 34 P4.3, 35 P4.4/~{RD}, 36 P2.0/A8/RSTOUT_LOW, 37 P2.1/A9/SCLK_2, 38 P2.2/A10/MISO_2, 39 P2.3/A11/MOSI_2, 40 P2.4/A12/SS_2, 41 P2.5/A13, 42 P2.6/A14, 43 P2.7/A15, 44 P4.5/ALE

## STC15W404S_SOP28_SKDIP28
designator U?
footprint SOP28
footprint SKDIP28
pins: 1 P2.6/A14, 2 P2.7/A15, 3 P1.0, 4 P1.1, 5 P1.2/SS/CMPO, 6 P1.3/MOSI, 7 P1.4/MISO, 8 P1.5/SCLK, 9 P1.6/RxD_3/MCLKO_2, 10 P1.7/TxD_3, 11 P5.4/RST/MCLKO/CMP-, 12 Vcc, 13 P5.5/CMP+, 14 Gnd, 15 P3.0/RxD/~{INT4}/T2CLKO, 16 P3.1/TxD/T2, 17 P3.2/INT0, 18 P3.3/INT1, 19 P3.4/T0/T1CLKO, 20 P3.5/T1/T0CLKO, 21 P3.6/~{INT2}/RxD_2, 22 P3.7/~{INT3}/TxD_2, 23 P2.0/A8/RSTOUT_LOW, 24 P2.1/A9/SCLK_2, 25 P2.2/A10/MISO_2, 26 P2.3/A11/MOSI_2, 27 P2.4/A12/SS_2, 28 P2.5/A13

## STC15W404S_SOP32
designator U?
footprint SOP32
pins: 1 P0.0/AD0, 2 P0.1/AD1, 3 P0.2/AD2, 4 P0.3/AD3, 5 P1.0, 6 P1.1, 7 P1.2/SS/CMPO, 8 P1.3/MOSI, 9 P1.4/MISO, 10 P1.5/SCLK, 11 P1.6/RxD_3/MCLKO_2, 12 P1.7/TxD_3, 13 P5.4/RST/MCLKO/CMP-, 14 Vcc, 15 P5.5/CMP+, 16 Gnd, 17 P3.0/RxD/~{INT4}/T2CLKO, 18 P3.1/TxD/T2, 19 P3.2/INT0, 20 P3.3/INT1, 21 P3.4/T0/T1CLKO, 22 P3.5/T1/T0CLKO, 23 P3.6/~{INT2}/RxD_2, 24 P3.7/~{INT3}/TxD_2, 25 P2.0/A8/RSTOUT_LOW, 26 P2.1/A9/SCLK_2, 27 P2.2/A10/MISO_2, 28 P2.3/A11/MOSI_2, 29 P2.4/A12/SS_2, 30 P2.5/A13, 31 P2.6/A14, 32 P2.7/A15

## STC15W408AD_SOP16_DIP16
designator U?
footprint DIP16
footprint SOP16
pins: 1 P1.2/ADC2/SS/ECI/CMPO, 2 P1.3/ADC3/MOSI, 3 P1.4/ADC4/MISO, 4 P1.5/ADC5/SCLK, 5 P5.4/RST/MCLKO/CMP-, 6 VCC, 7 P5.5/CMP+, 8 GND, 9 P3.0/RXD/~{INT4}/T2CLKO, 10 P3.1/TXD/T2, 11 P3.2/INT0, 12 P3.3/INT1, 13 P3.6/~{INT2}/RXD_2/CCP1_2, 14 P3.7/~{INT3}/TXD_2/CCP2/CCP2_2, 15 P1.0/ADC0/CCP1, 16 P1.1/ADC1/CCP0

## STC15W408AD_SOP20_DIP20_LSSOP20
designator U?
footprint DIP20
footprint LSSOP20
footprint SOP20
footprint TSSOP20
pins: 1 P1.2/ADC2/SS/ECI/CMPO, 2 P1.3/ADC3/MOSI, 3 P1.4/ADC4/MISO, 4 P1.5/ADC5/SCLK, 5 P1.6/ADC6/RXD_3/XTAL2/MCLKO_2, 6 P1.7/ADC7/TXD_3/XTAL1, 7 P5.4/RST/MCLKO/CMP-, 8 VCC, 9 P5.5/CMP+, 10 GND, 11 P3.0/RXD/~{INT4}/T2CLKO, 12 P3.1/TXD/T2, 13 P3.2/INT0, 14 P3.3/INT1, 15 P3.4/T0/ECI_2, 16 P3.5/T0CLKO/CCP0_2, 17 P3.6/~{INT2}/RXD_2/CCP1_2, 18 P3.7/~{INT3}/TXD_2/CCP2/CCP2_2, 19 P1.0/ADC0/CCP1, 20 P1.1/ADC1/CCP0

## STC15W408AD_SOP28_SKDIP28
designator U?
footprint SKDIP28
footprint SOP28
footprint TSSOP28
pins: 1 P2.6/CCP1_3, 2 P2.7/CCP2_3, 3 P1.0/ADC0/CCP1, 4 P1.1/ADC1/CCP0, 5 P1.2/ADC2/SS/ECI/CMPO, 6 P1.3/ADC3/MOSI, 7 P1.4/ADC4/MISO, 8 P1.5/ADC5/SCLK, 9 P1.6/ADC6/RXD_3/XTAL2/MCLKO_2, 10 P1.7/ADC7/TXD_3/XTAL1, 11 P5.4/RST/MCLKO/CMP-, 12 VCC, 13 P5.5/CMP+, 14 GND, 15 P3.0/RXD/~{INT4}/T2CLKO, 16 P3.1/TXD/T2, 17 P3.2/INT0, 18 P3.3/INT1, 19 P3.4/T0/ECI_2, 20 P3.5/T0CLKO/CCP0_2, 21 P3.6/~{INT2}/RXD_2/CCP1_2, 22 P3.7/~{INT3}/TXD_2/CCP2/CCP2_2, 23 P2.0/RSTOUT_LOW, 24 P2.1/SCLK_2, 25 P2.2/MISO_2, 26 P2.3/MOSI_2, 27 P2.4/ECI_3/SS_2, 28 P2.5/CCP0_3

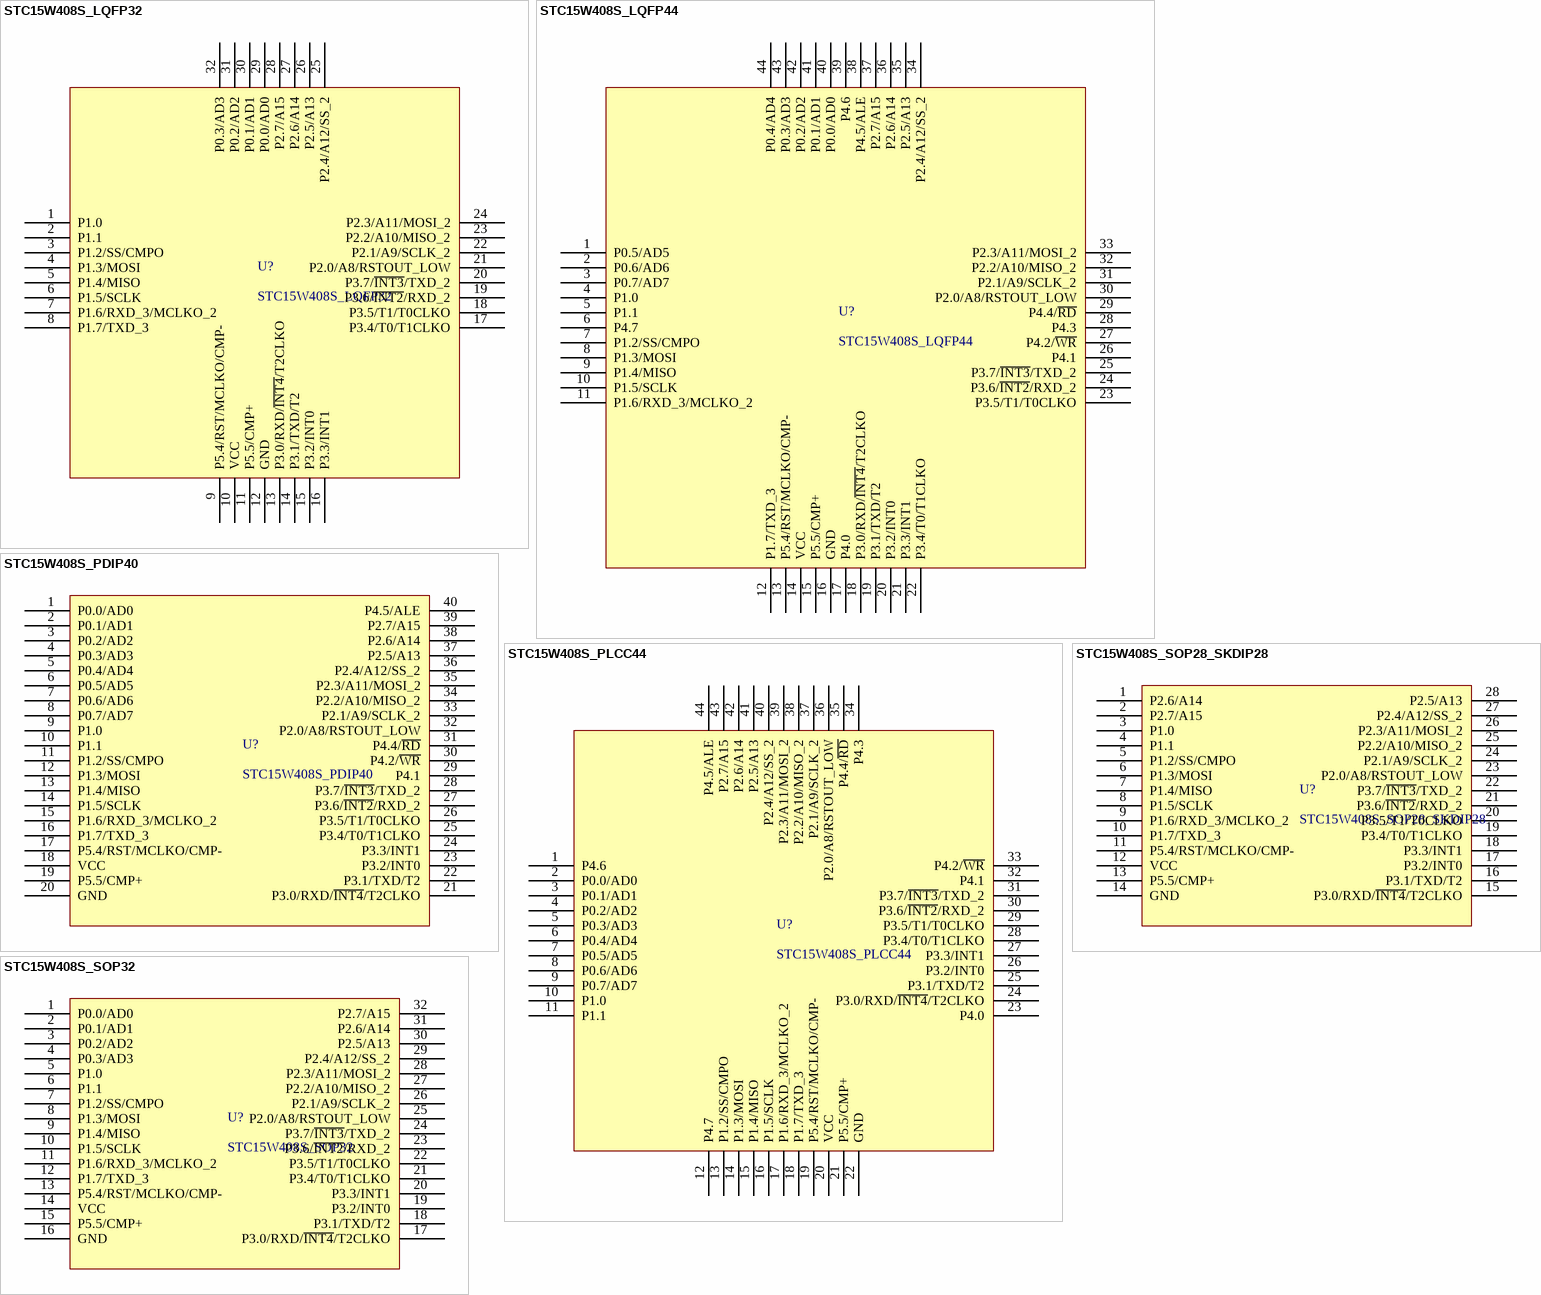
[diagram p9: symbols STC15W408S_LQFP32 to STC15W408S_SOP32]

## STC15W408S_LQFP32
designator U?
footprint LQFP32
pins: 1 P1.0, 2 P1.1, 3 P1.2/SS/CMPO, 4 P1.3/MOSI, 5 P1.4/MISO, 6 P1.5/SCLK, 7 P1.6/RXD_3/MCLKO_2, 8 P1.7/TXD_3, 9 P5.4/RST/MCLKO/CMP-, 10 VCC, 11 P5.5/CMP+, 12 GND, 13 P3.0/RXD/~{INT4}/T2CLKO, 14 P3.1/TXD/T2, 15 P3.2/INT0, 16 P3.3/INT1, 17 P3.4/T0/T1CLKO, 18 P3.5/T1/T0CLKO, 19 P3.6/~{INT2}/RXD_2, 20 P3.7/~{INT3}/TXD_2, 21 P2.0/A8/RSTOUT_LOW, 22 P2.1/A9/SCLK_2, 23 P2.2/A10/MISO_2, 24 P2.3/A11/MOSI_2, 25 P2.4/A12/SS_2, 26 P2.5/A13, 27 P2.6/A14, 28 P2.7/A15, 29 P0.0/AD0, 30 P0.1/AD1, 31 P0.2/AD2, 32 P0.3/AD3

## STC15W408S_LQFP44
designator U?
footprint LQFP44
footprint PQFP44
pins: 1 P0.5/AD5, 2 P0.6/AD6, 3 P0.7/AD7, 4 P1.0, 5 P1.1, 6 P4.7, 7 P1.2/SS/CMPO, 8 P1.3/MOSI, 9 P1.4/MISO, 10 P1.5/SCLK, 11 P1.6/RXD_3/MCLKO_2, 12 P1.7/TXD_3, 13 P5.4/RST/MCLKO/CMP-, 14 VCC, 15 P5.5/CMP+, 16 GND, 17 P4.0, 18 P3.0/RXD/~{INT4}/T2CLKO, 19 P3.1/TXD/T2, 20 P3.2/INT0, 21 P3.3/INT1, 22 P3.4/T0/T1CLKO, 23 P3.5/T1/T0CLKO, 24 P3.6/~{INT2}/RXD_2, 25 P3.7/~{INT3}/TXD_2, 26 P4.1, 27 P4.2/~{WR}, 28 P4.3, 29 P4.4/~{RD}, 30 P2.0/A8/RSTOUT_LOW, 31 P2.1/A9/SCLK_2, 32 P2.2/A10/MISO_2, 33 P2.3/A11/MOSI_2, 34 P2.4/A12/SS_2, 35 P2.5/A13, 36 P2.6/A14, 37 P2.7/A15, 38 P4.5/ALE, 39 P4.6, 40 P0.0/AD0, 41 P0.1/AD1, 42 P0.2/AD2, 43 P0.3/AD3, 44 P0.4/AD4

## STC15W408S_PDIP40
designator U?
footprint DIP40
pins: 1 P0.0/AD0, 2 P0.1/AD1, 3 P0.2/AD2, 4 P0.3/AD3, 5 P0.4/AD4, 6 P0.5/AD5, 7 P0.6/AD6, 8 P0.7/AD7, 9 P1.0, 10 P1.1, 11 P1.2/SS/CMPO, 12 P1.3/MOSI, 13 P1.4/MISO, 14 P1.5/SCLK, 15 P1.6/RXD_3/MCLKO_2, 16 P1.7/TXD_3, 17 P5.4/RST/MCLKO/CMP-, 18 VCC, 19 P5.5/CMP+, 20 GND, 21 P3.0/RXD/~{INT4}/T2CLKO, 22 P3.1/TXD/T2, 23 P3.2/INT0, 24 P3.3/INT1, 25 P3.4/T0/T1CLKO, 26 P3.5/T1/T0CLKO, 27 P3.6/~{INT2}/RXD_2, 28 P3.7/~{INT3}/TXD_2, 29 P4.1, 30 P4.2/~{WR}, 31 P4.4/~{RD}, 32 P2.0/A8/RSTOUT_LOW, 33 P2.1/A9/SCLK_2, 34 P2.2/A10/MISO_2, 35 P2.3/A11/MOSI_2, 36 P2.4/A12/SS_2, 37 P2.5/A13, 38 P2.6/A14, 39 P2.7/A15, 40 P4.5/ALE

## STC15W408S_PLCC44
designator U?
footprint PLCC44
pins: 1 P4.6, 2 P0.0/AD0, 3 P0.1/AD1, 4 P0.2/AD2, 5 P0.3/AD3, 6 P0.4/AD4, 7 P0.5/AD5, 8 P0.6/AD6, 9 P0.7/AD7, 10 P1.0, 11 P1.1, 12 P4.7, 13 P1.2/SS/CMPO, 14 P1.3/MOSI, 15 P1.4/MISO, 16 P1.5/SCLK, 17 P1.6/RXD_3/MCLKO_2, 18 P1.7/TXD_3, 19 P5.4/RST/MCLKO/CMP-, 20 VCC, 21 P5.5/CMP+, 22 GND, 23 P4.0, 24 P3.0/RXD/~{INT4}/T2CLKO, 25 P3.1/TXD/T2, 26 P3.2/INT0, 27 P3.3/INT1, 28 P3.4/T0/T1CLKO, 29 P3.5/T1/T0CLKO, 30 P3.6/~{INT2}/RXD_2, 31 P3.7/~{INT3}/TXD_2, 32 P4.1, 33 P4.2/~{WR}, 34 P4.3, 35 P4.4/~{RD}, 36 P2.0/A8/RSTOUT_LOW, 37 P2.1/A9/SCLK_2, 38 P2.2/A10/MISO_2, 39 P2.3/A11/MOSI_2, 40 P2.4/A12/SS_2, 41 P2.5/A13, 42 P2.6/A14, 43 P2.7/A15, 44 P4.5/ALE

## STC15W408S_SOP28_SKDIP28
designator U?
footprint SKDIP28
footprint SOP28
footprint TSSOP28
pins: 1 P2.6/A14, 2 P2.7/A15, 3 P1.0, 4 P1.1, 5 P1.2/SS/CMPO, 6 P1.3/MOSI, 7 P1.4/MISO, 8 P1.5/SCLK, 9 P1.6/RXD_3/MCLKO_2, 10 P1.7/TXD_3, 11 P5.4/RST/MCLKO/CMP-, 12 VCC, 13 P5.5/CMP+, 14 GND, 15 P3.0/RXD/~{INT4}/T2CLKO, 16 P3.1/TXD/T2, 17 P3.2/INT0, 18 P3.3/INT1, 19 P3.4/T0/T1CLKO, 20 P3.5/T1/T0CLKO, 21 P3.6/~{INT2}/RXD_2, 22 P3.7/~{INT3}/TXD_2, 23 P2.0/A8/RSTOUT_LOW, 24 P2.1/A9/SCLK_2, 25 P2.2/A10/MISO_2, 26 P2.3/A11/MOSI_2, 27 P2.4/A12/SS_2, 28 P2.5/A13

## STC15W408S_SOP32
designator U?
footprint SOP32
pins: 1 P0.0/AD0, 2 P0.1/AD1, 3 P0.2/AD2, 4 P0.3/AD3, 5 P1.0, 6 P1.1, 7 P1.2/SS/CMPO, 8 P1.3/MOSI, 9 P1.4/MISO, 10 P1.5/SCLK, 11 P1.6/RXD_3/MCLKO_2, 12 P1.7/TXD_3, 13 P5.4/RST/MCLKO/CMP-, 14 VCC, 15 P5.5/CMP+, 16 GND, 17 P3.0/RXD/~{INT4}/T2CLKO, 18 P3.1/TXD/T2, 19 P3.2/INT0, 20 P3.3/INT1, 21 P3.4/T0/T1CLKO, 22 P3.5/T1/T0CLKO, 23 P3.6/~{INT2}/RXD_2, 24 P3.7/~{INT3}/TXD_2, 25 P2.0/A8/RSTOUT_LOW, 26 P2.1/A9/SCLK_2, 27 P2.2/A10/MISO_2, 28 P2.3/A11/MOSI_2, 29 P2.4/A12/SS_2, 30 P2.5/A13, 31 P2.6/A14, 32 P2.7/A15